# Altium schematic symbol library MCU_ST_STM32F4.SchLib: 300 symbols (part 3 of 11)
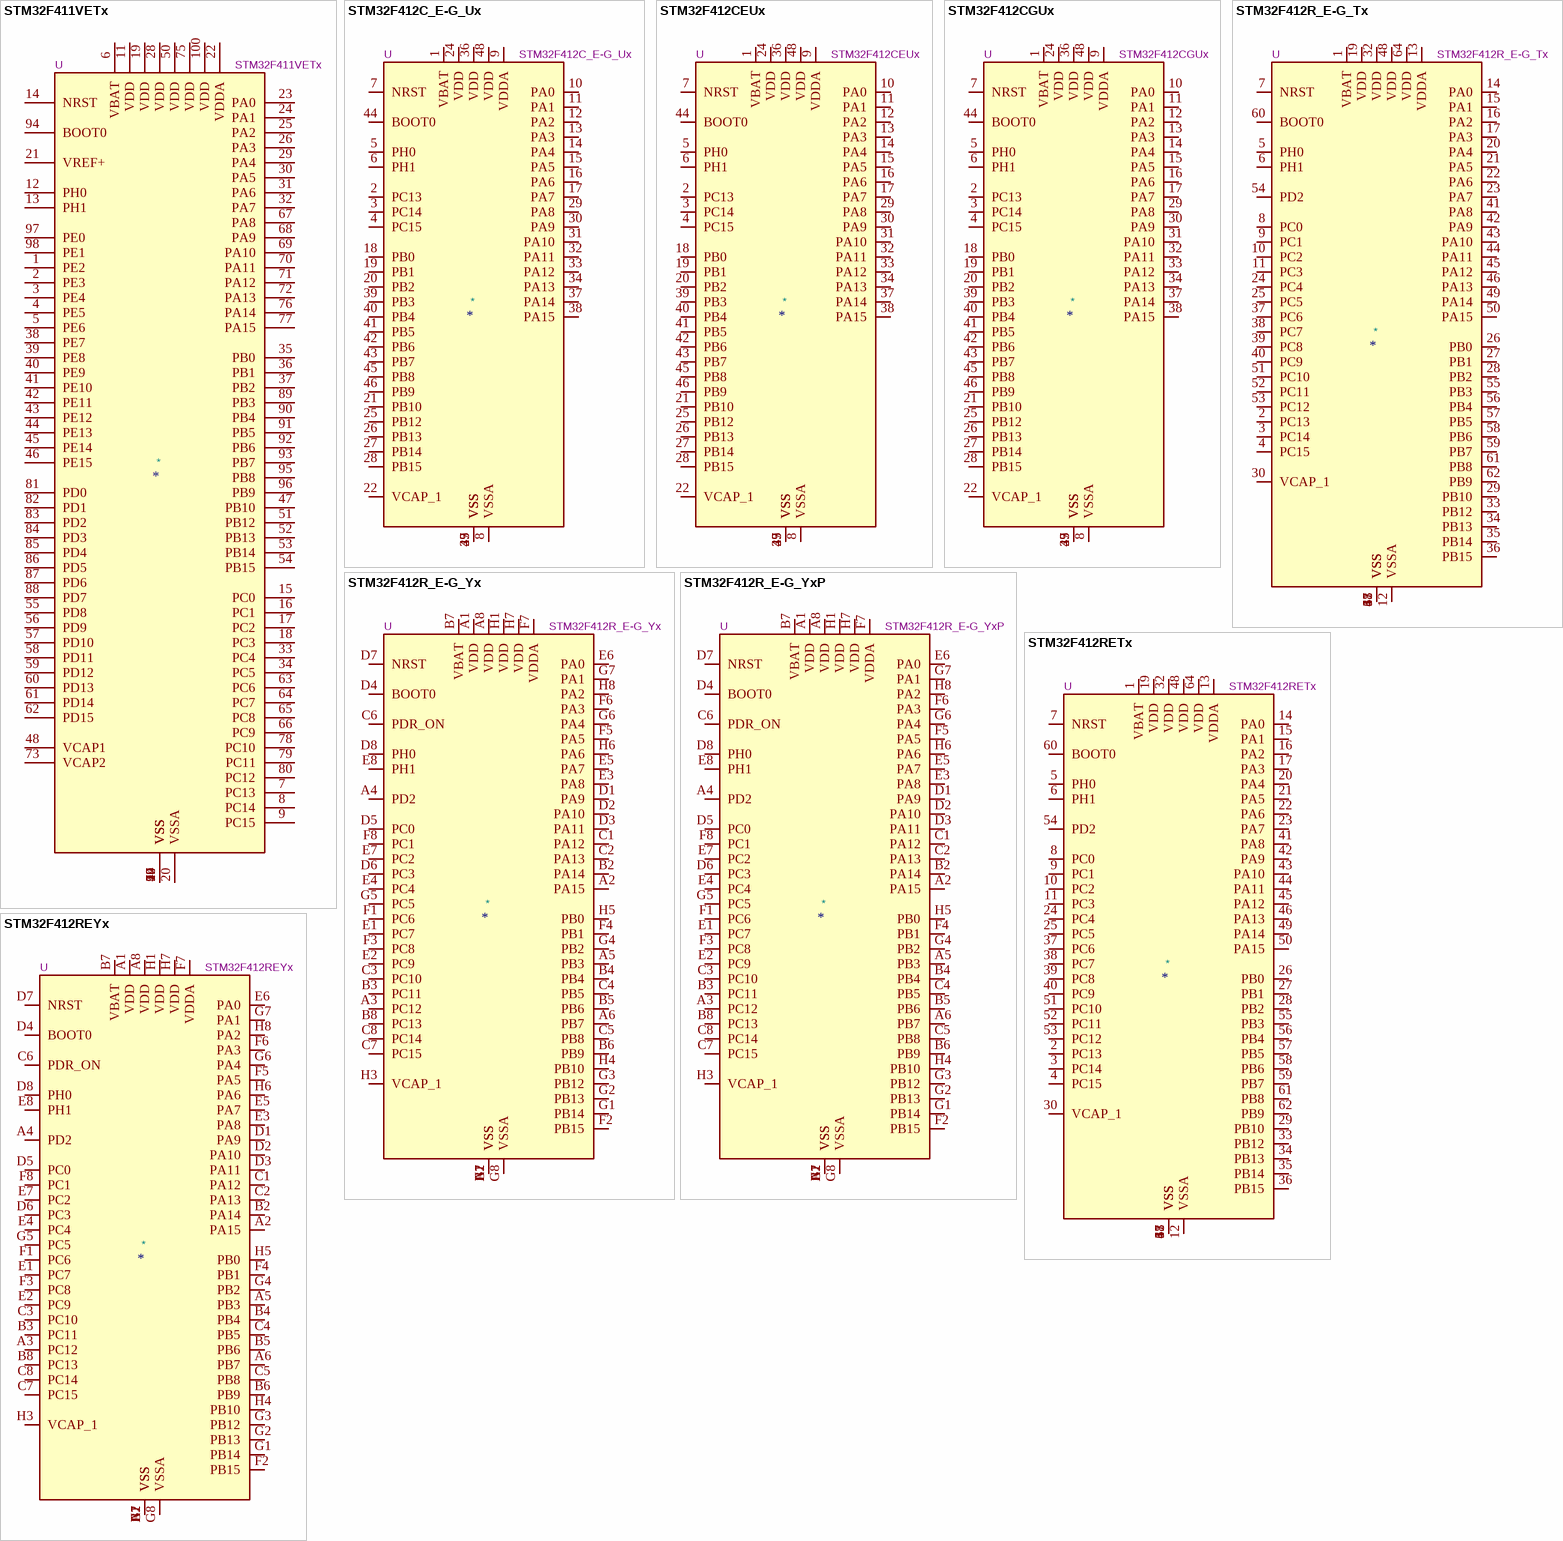
[diagram p84: symbols STM32F411VETx to STM32F412REYx]

## STM32F412R_E-G_Tx
designator *  value STM32F412R_E-G_Tx  Reference: U
STMicroelectronics Arm Cortex-M4 MCU, 512-1024KB flash, 256KB RAM, 100 MHz, 1.7-3.6V, 50 GPIO, LQFP64; ki_keywords: Arm Cortex-M4 STM32F4 STM32F412; ki_fp_filters: LQFP*10x10mm*P0.5mm*; Footprint: Package_QFP:LQFP-64_10x10mm_P0.5mm; Datasheet: https://www.st.com/resource/en/datasheet/stm32f412re.pdf; Description_: STMicroelectronics Arm Cortex-M4 MCU, 512-1024KB flash, 256KB RAM, 100 MHz, 1.7-3.6V, 50 GPIO, LQFP64
pins: 1 VBAT, 2 PC13, 3 PC14, 4 PC15, 5 PH0, 6 PH1, 7 NRST, 8 PC0, 9 PC1, 10 PC2, 11 PC3, 12 VSSA, 13 VDDA, 14 PA0, 15 PA1, 16 PA2, 17 PA3, 18 VSS, 19 VDD, 20 PA4, 21 PA5, 22 PA6, 23 PA7, 24 PC4, 25 PC5, 26 PB0, 27 PB1, 28 PB2, 29 PB10, 30 VCAP_1, 31 VSS, 32 VDD, 33 PB12, 34 PB13, 35 PB14, 36 PB15, 37 PC6, 38 PC7, 39 PC8, 40 PC9, 41 PA8, 42 PA9, 43 PA10, 44 PA11, 45 PA12, 46 PA13, 47 VSS, 48 VDD, 49 PA14, 50 PA15, 51 PC10, 52 PC11, 53 PC12, 54 PD2, 55 PB3, 56 PB4, 57 PB5, 58 PB6, 59 PB7, 60 BOOT0, 61 PB8, 62 PB9, 63 VSS, 64 VDD

## STM32F412R_E-G_Yx
designator *  value STM32F412R_E-G_Yx  Reference: U
STMicroelectronics Arm Cortex-M4 MCU, 512-1024KB flash, 256KB RAM, 100 MHz, 1.7-3.6V, 50 GPIO, WLCSP64; ki_keywords: Arm Cortex-M4 STM32F4 STM32F412; ki_fp_filters: ST*WLCSP*Die441*; Footprint: Package_CSP:ST_WLCSP-64_Die441; Datasheet: https://www.st.com/resource/en/datasheet/stm32f412re.pdf; Description_: STMicroelectronics Arm Cortex-M4 MCU, 512-1024KB flash, 256KB RAM, 100 MHz, 1.7-3.6V, 50 GPIO, WLCSP64
pins: A1 VDD, A2 PA15, A3 PC12, A4 PD2, A5 PB3, A6 PB7, A7 VSS, A8 VDD, B1 VSS, B2 PA14, B3 PC11, B4 PB4, B5 PB6, B6 PB9, B7 VBAT, B8 PC13, C1 PA12, C2 PA13, C3 PC10, C4 PB5, C5 PB8, C6 PDR_ON, C7 PC15, C8 PC14, D1 PA9, D2 PA10, D3 PA11, D4 BOOT0, D5 PC0, D6 PC3, D7 NRST, D8 PH0, E1 PC7, E2 PC9, E3 PA8, E4 PC4, E5 PA7, E6 PA0, E7 PC2, E8 PH1, F1 PC6, F2 PB15, F3 PC8, F4 PB1, F5 PA5, F6 PA3, F7 VDDA, F8 PC1, G1 PB14, G2 PB13, G3 PB12, G4 PB2, G5 PC5, G6 PA4, G7 PA1, G8 VSSA, H1 VDD, H2 VSS, H3 VCAP_1, H4 PB10, H5 PB0, H6 PA6, H7 VDD, H8 PA2

## STM32F412R_E-G_YxP
designator *  value STM32F412R_E-G_YxP  Reference: U
STMicroelectronics Arm Cortex-M4 MCU, 512-1024KB flash, 256KB RAM, 100 MHz, 1.7-3.6V, 50 GPIO, WLCSP64; ki_keywords: Arm Cortex-M4 STM32F4 STM32F412; ki_fp_filters: ST*WLCSP*Die441*; Footprint: Package_CSP:ST_WLCSP-64_Die441; Datasheet: https://www.st.com/resource/en/datasheet/stm32f412re.pdf; Description_: STMicroelectronics Arm Cortex-M4 MCU, 512-1024KB flash, 256KB RAM, 100 MHz, 1.7-3.6V, 50 GPIO, WLCSP64
pins: A1 VDD, A2 PA15, A3 PC12, A4 PD2, A5 PB3, A6 PB7, A7 VSS, A8 VDD, B1 VSS, B2 PA14, B3 PC11, B4 PB4, B5 PB6, B6 PB9, B7 VBAT, B8 PC13, C1 PA12, C2 PA13, C3 PC10, C4 PB5, C5 PB8, C6 PDR_ON, C7 PC15, C8 PC14, D1 PA9, D2 PA10, D3 PA11, D4 BOOT0, D5 PC0, D6 PC3, D7 NRST, D8 PH0, E1 PC7, E2 PC9, E3 PA8, E4 PC4, E5 PA7, E6 PA0, E7 PC2, E8 PH1, F1 PC6, F2 PB15, F3 PC8, F4 PB1, F5 PA5, F6 PA3, F7 VDDA, F8 PC1, G1 PB14, G2 PB13, G3 PB12, G4 PB2, G5 PC5, G6 PA4, G7 PA1, G8 VSSA, H1 VDD, H2 VSS, H3 VCAP_1, H4 PB10, H5 PB0, H6 PA6, H7 VDD, H8 PA2

## STM32F412RETx
designator *  value STM32F412RETx  Reference: U
STMicroelectronics Arm Cortex-M4 MCU, 512KB flash, 256KB RAM, 100 MHz, 1.7-3.6V, 50 GPIO, LQFP64; ki_keywords: Arm Cortex-M4 STM32F4 STM32F412; ki_fp_filters: LQFP*10x10mm*P0.5mm*; Footprint: Package_QFP:LQFP-64_10x10mm_P0.5mm; Datasheet: https://www.st.com/resource/en/datasheet/stm32f412re.pdf; Description_: STMicroelectronics Arm Cortex-M4 MCU, 512KB flash, 256KB RAM, 100 MHz, 1.7-3.6V, 50 GPIO, LQFP64
pins: 1 VBAT, 2 PC13, 3 PC14, 4 PC15, 5 PH0, 6 PH1, 7 NRST, 8 PC0, 9 PC1, 10 PC2, 11 PC3, 12 VSSA, 13 VDDA, 14 PA0, 15 PA1, 16 PA2, 17 PA3, 18 VSS, 19 VDD, 20 PA4, 21 PA5, 22 PA6, 23 PA7, 24 PC4, 25 PC5, 26 PB0, 27 PB1, 28 PB2, 29 PB10, 30 VCAP_1, 31 VSS, 32 VDD, 33 PB12, 34 PB13, 35 PB14, 36 PB15, 37 PC6, 38 PC7, 39 PC8, 40 PC9, 41 PA8, 42 PA9, 43 PA10, 44 PA11, 45 PA12, 46 PA13, 47 VSS, 48 VDD, 49 PA14, 50 PA15, 51 PC10, 52 PC11, 53 PC12, 54 PD2, 55 PB3, 56 PB4, 57 PB5, 58 PB6, 59 PB7, 60 BOOT0, 61 PB8, 62 PB9, 63 VSS, 64 VDD

## STM32F412REYx
designator *  value STM32F412REYx  Reference: U
STMicroelectronics Arm Cortex-M4 MCU, 512KB flash, 256KB RAM, 100 MHz, 1.7-3.6V, 50 GPIO, WLCSP64; ki_keywords: Arm Cortex-M4 STM32F4 STM32F412; ki_fp_filters: ST*WLCSP*Die441*; Footprint: Package_CSP:ST_WLCSP-64_Die441; Datasheet: https://www.st.com/resource/en/datasheet/stm32f412re.pdf; Description_: STMicroelectronics Arm Cortex-M4 MCU, 512KB flash, 256KB RAM, 100 MHz, 1.7-3.6V, 50 GPIO, WLCSP64
pins: A1 VDD, A2 PA15, A3 PC12, A4 PD2, A5 PB3, A6 PB7, A7 VSS, A8 VDD, B1 VSS, B2 PA14, B3 PC11, B4 PB4, B5 PB6, B6 PB9, B7 VBAT, B8 PC13, C1 PA12, C2 PA13, C3 PC10, C4 PB5, C5 PB8, C6 PDR_ON, C7 PC15, C8 PC14, D1 PA9, D2 PA10, D3 PA11, D4 BOOT0, D5 PC0, D6 PC3, D7 NRST, D8 PH0, E1 PC7, E2 PC9, E3 PA8, E4 PC4, E5 PA7, E6 PA0, E7 PC2, E8 PH1, F1 PC6, F2 PB15, F3 PC8, F4 PB1, F5 PA5, F6 PA3, F7 VDDA, F8 PC1, G1 PB14, G2 PB13, G3 PB12, G4 PB2, G5 PC5, G6 PA4, G7 PA1, G8 VSSA, H1 VDD, H2 VSS, H3 VCAP_1, H4 PB10, H5 PB0, H6 PA6, H7 VDD, H8 PA2

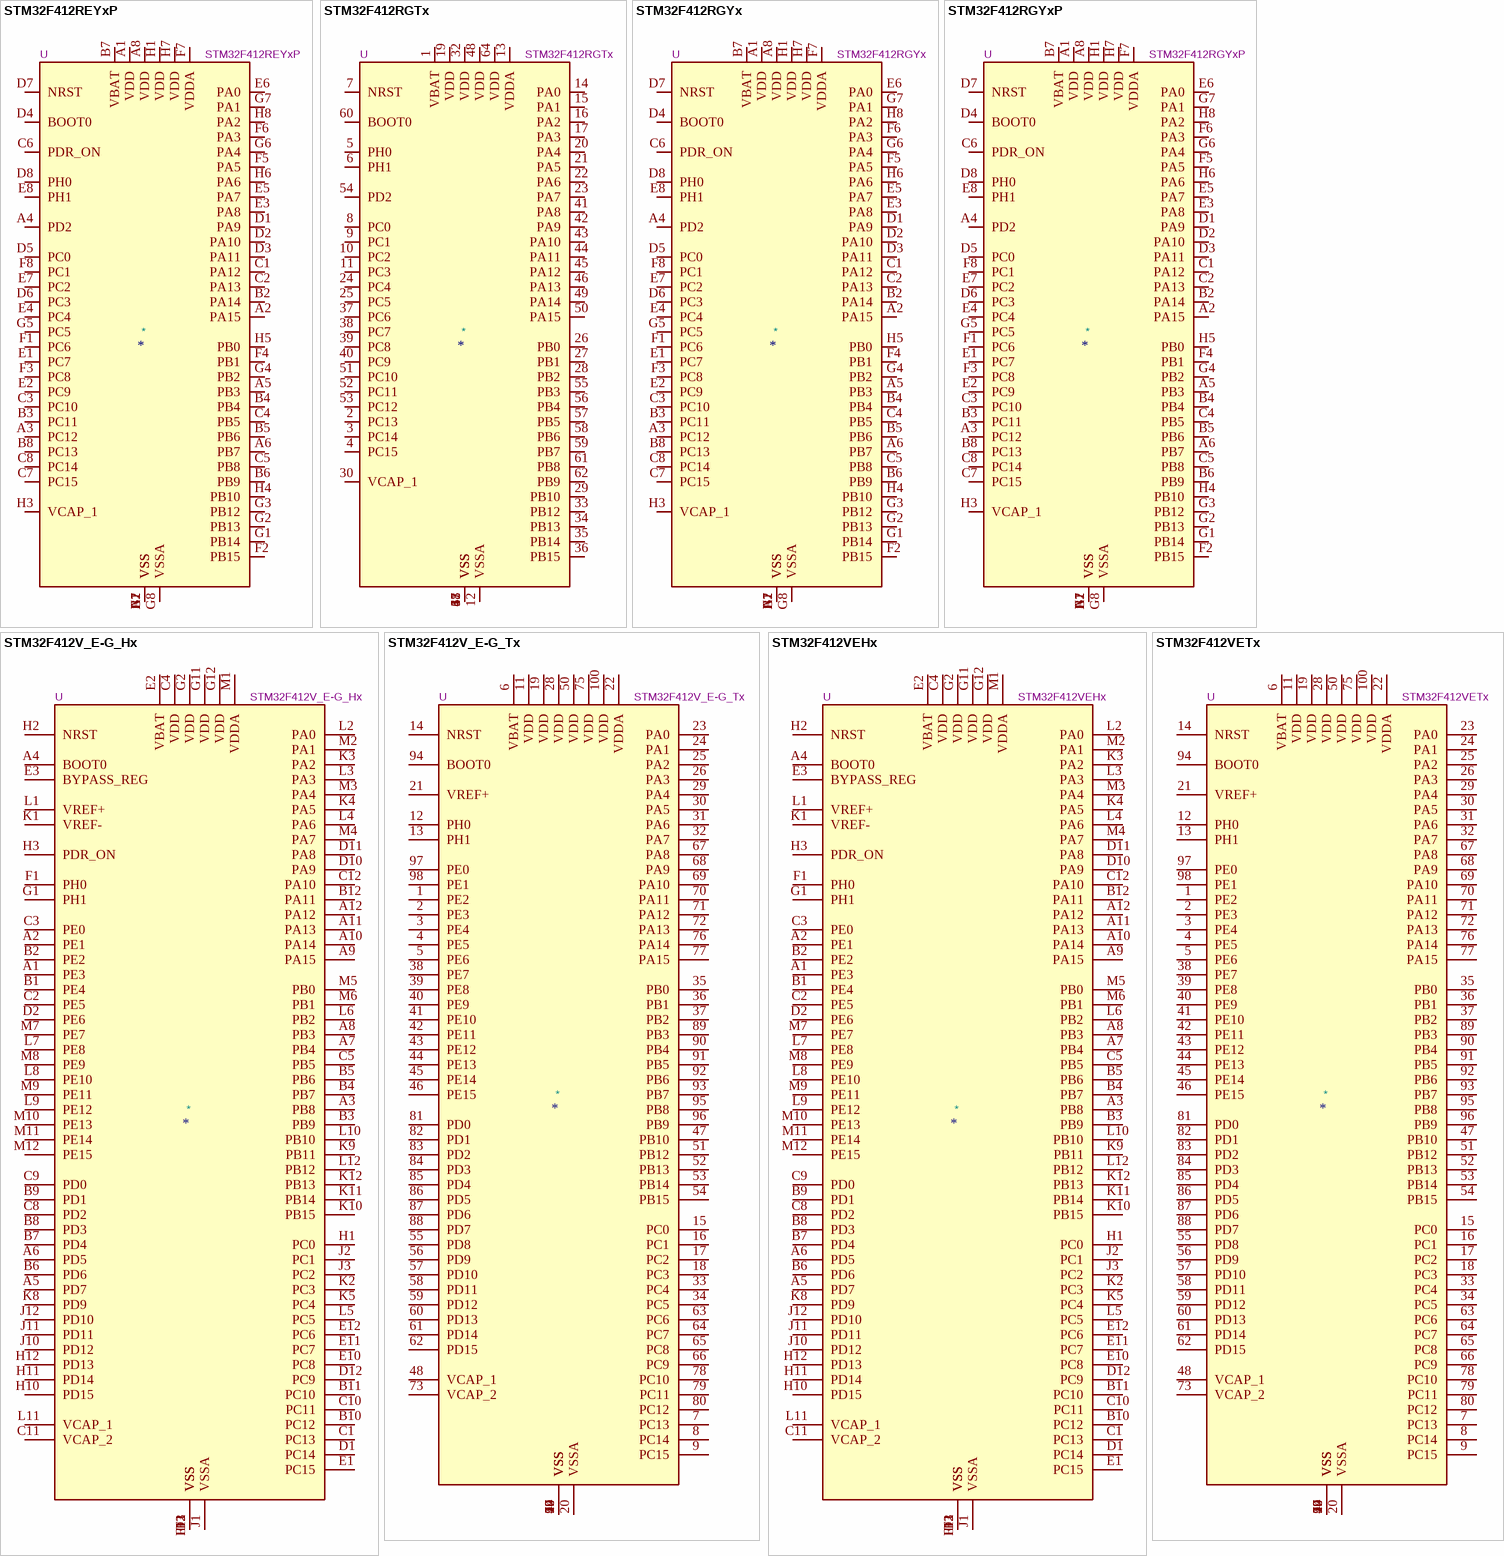
[diagram p15: symbols STM32F412REYxP to STM32F412VETx]

## STM32F412REYxP
designator *  value STM32F412REYxP  Reference: U
STMicroelectronics Arm Cortex-M4 MCU, 512KB flash, 256KB RAM, 100 MHz, 1.7-3.6V, 50 GPIO, WLCSP64; ki_keywords: Arm Cortex-M4 STM32F4 STM32F412; ki_fp_filters: ST*WLCSP*Die441*; Footprint: Package_CSP:ST_WLCSP-64_Die441; Datasheet: https://www.st.com/resource/en/datasheet/stm32f412re.pdf; Description_: STMicroelectronics Arm Cortex-M4 MCU, 512KB flash, 256KB RAM, 100 MHz, 1.7-3.6V, 50 GPIO, WLCSP64
pins: A1 VDD, A2 PA15, A3 PC12, A4 PD2, A5 PB3, A6 PB7, A7 VSS, A8 VDD, B1 VSS, B2 PA14, B3 PC11, B4 PB4, B5 PB6, B6 PB9, B7 VBAT, B8 PC13, C1 PA12, C2 PA13, C3 PC10, C4 PB5, C5 PB8, C6 PDR_ON, C7 PC15, C8 PC14, D1 PA9, D2 PA10, D3 PA11, D4 BOOT0, D5 PC0, D6 PC3, D7 NRST, D8 PH0, E1 PC7, E2 PC9, E3 PA8, E4 PC4, E5 PA7, E6 PA0, E7 PC2, E8 PH1, F1 PC6, F2 PB15, F3 PC8, F4 PB1, F5 PA5, F6 PA3, F7 VDDA, F8 PC1, G1 PB14, G2 PB13, G3 PB12, G4 PB2, G5 PC5, G6 PA4, G7 PA1, G8 VSSA, H1 VDD, H2 VSS, H3 VCAP_1, H4 PB10, H5 PB0, H6 PA6, H7 VDD, H8 PA2

## STM32F412RGTx
designator *  value STM32F412RGTx  Reference: U
STMicroelectronics Arm Cortex-M4 MCU, 1024KB flash, 256KB RAM, 100 MHz, 1.7-3.6V, 50 GPIO, LQFP64; ki_keywords: Arm Cortex-M4 STM32F4 STM32F412; ki_fp_filters: LQFP*10x10mm*P0.5mm*; Footprint: Package_QFP:LQFP-64_10x10mm_P0.5mm; Datasheet: https://www.st.com/resource/en/datasheet/stm32f412rg.pdf; Description_: STMicroelectronics Arm Cortex-M4 MCU, 1024KB flash, 256KB RAM, 100 MHz, 1.7-3.6V, 50 GPIO, LQFP64
pins: 1 VBAT, 2 PC13, 3 PC14, 4 PC15, 5 PH0, 6 PH1, 7 NRST, 8 PC0, 9 PC1, 10 PC2, 11 PC3, 12 VSSA, 13 VDDA, 14 PA0, 15 PA1, 16 PA2, 17 PA3, 18 VSS, 19 VDD, 20 PA4, 21 PA5, 22 PA6, 23 PA7, 24 PC4, 25 PC5, 26 PB0, 27 PB1, 28 PB2, 29 PB10, 30 VCAP_1, 31 VSS, 32 VDD, 33 PB12, 34 PB13, 35 PB14, 36 PB15, 37 PC6, 38 PC7, 39 PC8, 40 PC9, 41 PA8, 42 PA9, 43 PA10, 44 PA11, 45 PA12, 46 PA13, 47 VSS, 48 VDD, 49 PA14, 50 PA15, 51 PC10, 52 PC11, 53 PC12, 54 PD2, 55 PB3, 56 PB4, 57 PB5, 58 PB6, 59 PB7, 60 BOOT0, 61 PB8, 62 PB9, 63 VSS, 64 VDD

## STM32F412RGYx
designator *  value STM32F412RGYx  Reference: U
STMicroelectronics Arm Cortex-M4 MCU, 1024KB flash, 256KB RAM, 100 MHz, 1.7-3.6V, 50 GPIO, WLCSP64; ki_keywords: Arm Cortex-M4 STM32F4 STM32F412; ki_fp_filters: ST*WLCSP*Die441*; Footprint: Package_CSP:ST_WLCSP-64_Die441; Datasheet: https://www.st.com/resource/en/datasheet/stm32f412rg.pdf; Description_: STMicroelectronics Arm Cortex-M4 MCU, 1024KB flash, 256KB RAM, 100 MHz, 1.7-3.6V, 50 GPIO, WLCSP64
pins: A1 VDD, A2 PA15, A3 PC12, A4 PD2, A5 PB3, A6 PB7, A7 VSS, A8 VDD, B1 VSS, B2 PA14, B3 PC11, B4 PB4, B5 PB6, B6 PB9, B7 VBAT, B8 PC13, C1 PA12, C2 PA13, C3 PC10, C4 PB5, C5 PB8, C6 PDR_ON, C7 PC15, C8 PC14, D1 PA9, D2 PA10, D3 PA11, D4 BOOT0, D5 PC0, D6 PC3, D7 NRST, D8 PH0, E1 PC7, E2 PC9, E3 PA8, E4 PC4, E5 PA7, E6 PA0, E7 PC2, E8 PH1, F1 PC6, F2 PB15, F3 PC8, F4 PB1, F5 PA5, F6 PA3, F7 VDDA, F8 PC1, G1 PB14, G2 PB13, G3 PB12, G4 PB2, G5 PC5, G6 PA4, G7 PA1, G8 VSSA, H1 VDD, H2 VSS, H3 VCAP_1, H4 PB10, H5 PB0, H6 PA6, H7 VDD, H8 PA2

## STM32F412RGYxP
designator *  value STM32F412RGYxP  Reference: U
STMicroelectronics Arm Cortex-M4 MCU, 1024KB flash, 256KB RAM, 100 MHz, 1.7-3.6V, 50 GPIO, WLCSP64; ki_keywords: Arm Cortex-M4 STM32F4 STM32F412; ki_fp_filters: ST*WLCSP*Die441*; Footprint: Package_CSP:ST_WLCSP-64_Die441; Datasheet: https://www.st.com/resource/en/datasheet/stm32f412rg.pdf; Description_: STMicroelectronics Arm Cortex-M4 MCU, 1024KB flash, 256KB RAM, 100 MHz, 1.7-3.6V, 50 GPIO, WLCSP64
pins: A1 VDD, A2 PA15, A3 PC12, A4 PD2, A5 PB3, A6 PB7, A7 VSS, A8 VDD, B1 VSS, B2 PA14, B3 PC11, B4 PB4, B5 PB6, B6 PB9, B7 VBAT, B8 PC13, C1 PA12, C2 PA13, C3 PC10, C4 PB5, C5 PB8, C6 PDR_ON, C7 PC15, C8 PC14, D1 PA9, D2 PA10, D3 PA11, D4 BOOT0, D5 PC0, D6 PC3, D7 NRST, D8 PH0, E1 PC7, E2 PC9, E3 PA8, E4 PC4, E5 PA7, E6 PA0, E7 PC2, E8 PH1, F1 PC6, F2 PB15, F3 PC8, F4 PB1, F5 PA5, F6 PA3, F7 VDDA, F8 PC1, G1 PB14, G2 PB13, G3 PB12, G4 PB2, G5 PC5, G6 PA4, G7 PA1, G8 VSSA, H1 VDD, H2 VSS, H3 VCAP_1, H4 PB10, H5 PB0, H6 PA6, H7 VDD, H8 PA2

## STM32F412V_E-G_Hx
designator *  value STM32F412V_E-G_Hx  Reference: U
STMicroelectronics Arm Cortex-M4 MCU, 512-1024KB flash, 256KB RAM, 100 MHz, 1.7-3.6V, 81 GPIO, UFBGA100; ki_keywords: Arm Cortex-M4 STM32F4 STM32F412; ki_fp_filters: UFBGA*7x7mm*Layout12x12*P0.5mm*; Footprint: Package_BGA:UFBGA-100_7x7mm_Layout12x12_P0.5mm; Datasheet: https://www.st.com/resource/en/datasheet/stm32f412ve.pdf; Description_: STMicroelectronics Arm Cortex-M4 MCU, 512-1024KB flash, 256KB RAM, 100 MHz, 1.7-3.6V, 81 GPIO, UFBGA100
pins: A1 PE3, A2 PE1, A3 PB8, A4 BOOT0, A5 PD7, A6 PD5, A7 PB4, A8 PB3, A9 PA15, A10 PA14, A11 PA13, A12 PA12, B1 PE4, B2 PE2, B3 PB9, B4 PB7, B5 PB6, B6 PD6, B7 PD4, B8 PD3, B9 PD1, B10 PC12, B11 PC10, B12 PA11, C1 PC13, C2 PE5, C3 PE0, C4 VDD, C5 PB5, C8 PD2, C9 PD0, C10 PC11, C11 VCAP_2, C12 PA10, D1 PC14, D2 PE6, D3 VSS, D10 PA9, D11 PA8, D12 PC9, E1 PC15, E2 VBAT, E3 BYPASS_REG, E10 PC8, E11 PC7, E12 PC6, F1 PH0, F2 VSS, F11 VSS, F12 VSS, G1 PH1, G2 VDD, G11 VDD, G12 VDD, H1 PC0, H2 NRST, H3 PDR_ON, H10 PD15, H11 PD14, H12 PD13, J1 VSSA, J2 PC1, J3 PC2, J10 PD12, J11 PD11, J12 PD10, K1 VREF-, K2 PC3, K3 PA2, K4 PA5, K5 PC4, K8 PD9, K9 PB11, K10 PB15, K11 PB14, K12 PB13, L1 VREF+, L2 PA0, L3 PA3, L4 PA6, L5 PC5, L6 PB2, L7 PE8, L8 PE10, L9 PE12, L10 PB10, L11 VCAP_1, L12 PB12, M1 VDDA, M2 PA1, M3 PA4, M4 PA7, M5 PB0, M6 PB1, M7 PE7, M8 PE9, M9 PE11, M10 PE13, M11 PE14, M12 PE15

## STM32F412V_E-G_Tx
designator *  value STM32F412V_E-G_Tx  Reference: U
STMicroelectronics Arm Cortex-M4 MCU, 512-1024KB flash, 256KB RAM, 100 MHz, 1.7-3.6V, 81 GPIO, LQFP100; ki_keywords: Arm Cortex-M4 STM32F4 STM32F412; ki_fp_filters: LQFP*14x14mm*P0.5mm*; Footprint: Package_QFP:LQFP-100_14x14mm_P0.5mm; Datasheet: https://www.st.com/resource/en/datasheet/stm32f412ve.pdf; Description_: STMicroelectronics Arm Cortex-M4 MCU, 512-1024KB flash, 256KB RAM, 100 MHz, 1.7-3.6V, 81 GPIO, LQFP100
pins: 1 PE2, 2 PE3, 3 PE4, 4 PE5, 5 PE6, 6 VBAT, 7 PC13, 8 PC14, 9 PC15, 10 VSS, 11 VDD, 12 PH0, 13 PH1, 14 NRST, 15 PC0, 16 PC1, 17 PC2, 18 PC3, 19 VDD, 20 VSSA, 21 VREF+, 22 VDDA, 23 PA0, 24 PA1, 25 PA2, 26 PA3, 27 VSS, 28 VDD, 29 PA4, 30 PA5, 31 PA6, 32 PA7, 33 PC4, 34 PC5, 35 PB0, 36 PB1, 37 PB2, 38 PE7, 39 PE8, 40 PE9, 41 PE10, 42 PE11, 43 PE12, 44 PE13, 45 PE14, 46 PE15, 47 PB10, 48 VCAP_1, 49 VSS, 50 VDD, 51 PB12, 52 PB13, 53 PB14, 54 PB15, 55 PD8, 56 PD9, 57 PD10, 58 PD11, 59 PD12, 60 PD13, 61 PD14, 62 PD15, 63 PC6, 64 PC7, 65 PC8, 66 PC9, 67 PA8, 68 PA9, 69 PA10, 70 PA11, 71 PA12, 72 PA13, 73 VCAP_2, 74 VSS, 75 VDD, 76 PA14, 77 PA15, 78 PC10, 79 PC11, 80 PC12, 81 PD0, 82 PD1, 83 PD2, 84 PD3, 85 PD4, 86 PD5, 87 PD6, 88 PD7, 89 PB3, 90 PB4, 91 PB5, 92 PB6, 93 PB7, 94 BOOT0, 95 PB8, 96 PB9, 97 PE0, 98 PE1, 99 VSS, 100 VDD

## STM32F412VEHx
designator *  value STM32F412VEHx  Reference: U
STMicroelectronics Arm Cortex-M4 MCU, 512KB flash, 256KB RAM, 100 MHz, 1.7-3.6V, 81 GPIO, UFBGA100; ki_keywords: Arm Cortex-M4 STM32F4 STM32F412; ki_fp_filters: UFBGA*7x7mm*Layout12x12*P0.5mm*; Footprint: Package_BGA:UFBGA-100_7x7mm_Layout12x12_P0.5mm; Datasheet: https://www.st.com/resource/en/datasheet/stm32f412ve.pdf; Description_: STMicroelectronics Arm Cortex-M4 MCU, 512KB flash, 256KB RAM, 100 MHz, 1.7-3.6V, 81 GPIO, UFBGA100
pins: A1 PE3, A2 PE1, A3 PB8, A4 BOOT0, A5 PD7, A6 PD5, A7 PB4, A8 PB3, A9 PA15, A10 PA14, A11 PA13, A12 PA12, B1 PE4, B2 PE2, B3 PB9, B4 PB7, B5 PB6, B6 PD6, B7 PD4, B8 PD3, B9 PD1, B10 PC12, B11 PC10, B12 PA11, C1 PC13, C2 PE5, C3 PE0, C4 VDD, C5 PB5, C8 PD2, C9 PD0, C10 PC11, C11 VCAP_2, C12 PA10, D1 PC14, D2 PE6, D3 VSS, D10 PA9, D11 PA8, D12 PC9, E1 PC15, E2 VBAT, E3 BYPASS_REG, E10 PC8, E11 PC7, E12 PC6, F1 PH0, F2 VSS, F11 VSS, F12 VSS, G1 PH1, G2 VDD, G11 VDD, G12 VDD, H1 PC0, H2 NRST, H3 PDR_ON, H10 PD15, H11 PD14, H12 PD13, J1 VSSA, J2 PC1, J3 PC2, J10 PD12, J11 PD11, J12 PD10, K1 VREF-, K2 PC3, K3 PA2, K4 PA5, K5 PC4, K8 PD9, K9 PB11, K10 PB15, K11 PB14, K12 PB13, L1 VREF+, L2 PA0, L3 PA3, L4 PA6, L5 PC5, L6 PB2, L7 PE8, L8 PE10, L9 PE12, L10 PB10, L11 VCAP_1, L12 PB12, M1 VDDA, M2 PA1, M3 PA4, M4 PA7, M5 PB0, M6 PB1, M7 PE7, M8 PE9, M9 PE11, M10 PE13, M11 PE14, M12 PE15

## STM32F412VETx
designator *  value STM32F412VETx  Reference: U
STMicroelectronics Arm Cortex-M4 MCU, 512KB flash, 256KB RAM, 100 MHz, 1.7-3.6V, 81 GPIO, LQFP100; ki_keywords: Arm Cortex-M4 STM32F4 STM32F412; ki_fp_filters: LQFP*14x14mm*P0.5mm*; Footprint: Package_QFP:LQFP-100_14x14mm_P0.5mm; Datasheet: https://www.st.com/resource/en/datasheet/stm32f412ve.pdf; Description_: STMicroelectronics Arm Cortex-M4 MCU, 512KB flash, 256KB RAM, 100 MHz, 1.7-3.6V, 81 GPIO, LQFP100
pins: 1 PE2, 2 PE3, 3 PE4, 4 PE5, 5 PE6, 6 VBAT, 7 PC13, 8 PC14, 9 PC15, 10 VSS, 11 VDD, 12 PH0, 13 PH1, 14 NRST, 15 PC0, 16 PC1, 17 PC2, 18 PC3, 19 VDD, 20 VSSA, 21 VREF+, 22 VDDA, 23 PA0, 24 PA1, 25 PA2, 26 PA3, 27 VSS, 28 VDD, 29 PA4, 30 PA5, 31 PA6, 32 PA7, 33 PC4, 34 PC5, 35 PB0, 36 PB1, 37 PB2, 38 PE7, 39 PE8, 40 PE9, 41 PE10, 42 PE11, 43 PE12, 44 PE13, 45 PE14, 46 PE15, 47 PB10, 48 VCAP_1, 49 VSS, 50 VDD, 51 PB12, 52 PB13, 53 PB14, 54 PB15, 55 PD8, 56 PD9, 57 PD10, 58 PD11, 59 PD12, 60 PD13, 61 PD14, 62 PD15, 63 PC6, 64 PC7, 65 PC8, 66 PC9, 67 PA8, 68 PA9, 69 PA10, 70 PA11, 71 PA12, 72 PA13, 73 VCAP_2, 74 VSS, 75 VDD, 76 PA14, 77 PA15, 78 PC10, 79 PC11, 80 PC12, 81 PD0, 82 PD1, 83 PD2, 84 PD3, 85 PD4, 86 PD5, 87 PD6, 88 PD7, 89 PB3, 90 PB4, 91 PB5, 92 PB6, 93 PB7, 94 BOOT0, 95 PB8, 96 PB9, 97 PE0, 98 PE1, 99 VSS, 100 VDD

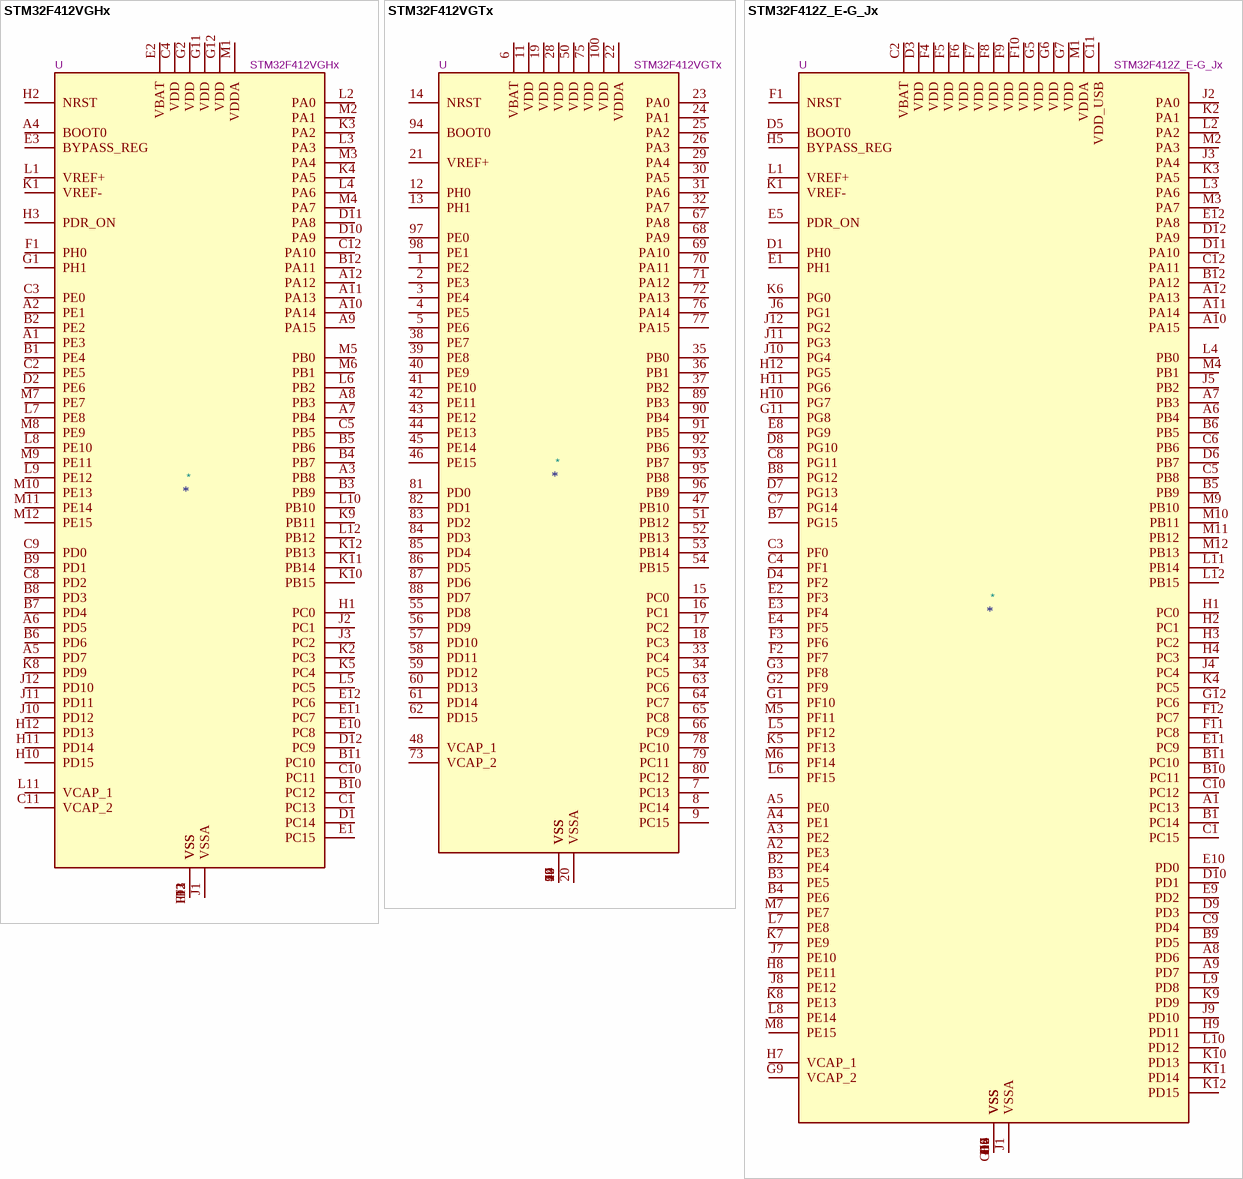
[diagram p16: symbols STM32F412VGHx to STM32F412Z_E-G_Jx]

## STM32F412VGHx
designator *  value STM32F412VGHx  Reference: U
STMicroelectronics Arm Cortex-M4 MCU, 1024KB flash, 256KB RAM, 100 MHz, 1.7-3.6V, 81 GPIO, UFBGA100; ki_keywords: Arm Cortex-M4 STM32F4 STM32F412; ki_fp_filters: UFBGA*7x7mm*Layout12x12*P0.5mm*; Footprint: Package_BGA:UFBGA-100_7x7mm_Layout12x12_P0.5mm; Datasheet: https://www.st.com/resource/en/datasheet/stm32f412vg.pdf; Description_: STMicroelectronics Arm Cortex-M4 MCU, 1024KB flash, 256KB RAM, 100 MHz, 1.7-3.6V, 81 GPIO, UFBGA100
pins: A1 PE3, A2 PE1, A3 PB8, A4 BOOT0, A5 PD7, A6 PD5, A7 PB4, A8 PB3, A9 PA15, A10 PA14, A11 PA13, A12 PA12, B1 PE4, B2 PE2, B3 PB9, B4 PB7, B5 PB6, B6 PD6, B7 PD4, B8 PD3, B9 PD1, B10 PC12, B11 PC10, B12 PA11, C1 PC13, C2 PE5, C3 PE0, C4 VDD, C5 PB5, C8 PD2, C9 PD0, C10 PC11, C11 VCAP_2, C12 PA10, D1 PC14, D2 PE6, D3 VSS, D10 PA9, D11 PA8, D12 PC9, E1 PC15, E2 VBAT, E3 BYPASS_REG, E10 PC8, E11 PC7, E12 PC6, F1 PH0, F2 VSS, F11 VSS, F12 VSS, G1 PH1, G2 VDD, G11 VDD, G12 VDD, H1 PC0, H2 NRST, H3 PDR_ON, H10 PD15, H11 PD14, H12 PD13, J1 VSSA, J2 PC1, J3 PC2, J10 PD12, J11 PD11, J12 PD10, K1 VREF-, K2 PC3, K3 PA2, K4 PA5, K5 PC4, K8 PD9, K9 PB11, K10 PB15, K11 PB14, K12 PB13, L1 VREF+, L2 PA0, L3 PA3, L4 PA6, L5 PC5, L6 PB2, L7 PE8, L8 PE10, L9 PE12, L10 PB10, L11 VCAP_1, L12 PB12, M1 VDDA, M2 PA1, M3 PA4, M4 PA7, M5 PB0, M6 PB1, M7 PE7, M8 PE9, M9 PE11, M10 PE13, M11 PE14, M12 PE15

## STM32F412VGTx
designator *  value STM32F412VGTx  Reference: U
STMicroelectronics Arm Cortex-M4 MCU, 1024KB flash, 256KB RAM, 100 MHz, 1.7-3.6V, 81 GPIO, LQFP100; ki_keywords: Arm Cortex-M4 STM32F4 STM32F412; ki_fp_filters: LQFP*14x14mm*P0.5mm*; Footprint: Package_QFP:LQFP-100_14x14mm_P0.5mm; Datasheet: https://www.st.com/resource/en/datasheet/stm32f412vg.pdf; Description_: STMicroelectronics Arm Cortex-M4 MCU, 1024KB flash, 256KB RAM, 100 MHz, 1.7-3.6V, 81 GPIO, LQFP100
pins: 1 PE2, 2 PE3, 3 PE4, 4 PE5, 5 PE6, 6 VBAT, 7 PC13, 8 PC14, 9 PC15, 10 VSS, 11 VDD, 12 PH0, 13 PH1, 14 NRST, 15 PC0, 16 PC1, 17 PC2, 18 PC3, 19 VDD, 20 VSSA, 21 VREF+, 22 VDDA, 23 PA0, 24 PA1, 25 PA2, 26 PA3, 27 VSS, 28 VDD, 29 PA4, 30 PA5, 31 PA6, 32 PA7, 33 PC4, 34 PC5, 35 PB0, 36 PB1, 37 PB2, 38 PE7, 39 PE8, 40 PE9, 41 PE10, 42 PE11, 43 PE12, 44 PE13, 45 PE14, 46 PE15, 47 PB10, 48 VCAP_1, 49 VSS, 50 VDD, 51 PB12, 52 PB13, 53 PB14, 54 PB15, 55 PD8, 56 PD9, 57 PD10, 58 PD11, 59 PD12, 60 PD13, 61 PD14, 62 PD15, 63 PC6, 64 PC7, 65 PC8, 66 PC9, 67 PA8, 68 PA9, 69 PA10, 70 PA11, 71 PA12, 72 PA13, 73 VCAP_2, 74 VSS, 75 VDD, 76 PA14, 77 PA15, 78 PC10, 79 PC11, 80 PC12, 81 PD0, 82 PD1, 83 PD2, 84 PD3, 85 PD4, 86 PD5, 87 PD6, 88 PD7, 89 PB3, 90 PB4, 91 PB5, 92 PB6, 93 PB7, 94 BOOT0, 95 PB8, 96 PB9, 97 PE0, 98 PE1, 99 VSS, 100 VDD

## STM32F412Z_E-G_Jx
designator *  value STM32F412Z_E-G_Jx  Reference: U
STMicroelectronics Arm Cortex-M4 MCU, 512-1024KB flash, 256KB RAM, 100 MHz, 1.7-3.6V, 114 GPIO, UFBGA144; ki_keywords: Arm Cortex-M4 STM32F4 STM32F412; ki_fp_filters: UFBGA*10x10mm*Layout12x12*P0.8mm*; Footprint: Package_BGA:UFBGA-144_10x10mm_Layout12x12_P0.8mm; Datasheet: https://www.st.com/resource/en/datasheet/stm32f412ze.pdf; Description_: STMicroelectronics Arm Cortex-M4 MCU, 512-1024KB flash, 256KB RAM, 100 MHz, 1.7-3.6V, 114 GPIO, UFBGA144
pins: A1 PC13, A2 PE3, A3 PE2, A4 PE1, A5 PE0, A6 PB4, A7 PB3, A8 PD6, A9 PD7, A10 PA15, A11 PA14, A12 PA13, B1 PC14, B2 PE4, B3 PE5, B4 PE6, B5 PB9, B6 PB5, B7 PG15, B8 PG12, B9 PD5, B10 PC11, B11 PC10, B12 PA12, C1 PC15, C2 VBAT, C3 PF0, C4 PF1, C5 PB8, C6 PB6, C7 PG14, C8 PG11, C9 PD4, C10 PC12, C11 VDD_USB, C12 PA11, D1 PH0, D2 VSS, D3 VDD, D4 PF2, D5 BOOT0, D6 PB7, D7 PG13, D8 PG10, D9 PD3, D10 PD1, D11 PA10, D12 PA9, E1 PH1, E2 PF3, E3 PF4, E4 PF5, E5 PDR_ON, E6 VSS, E7 VSS, E8 PG9, E9 PD2, E10 PD0, E11 PC9, E12 PA8, F1 NRST, F2 PF7, F3 PF6, F4 VDD, F5 VDD, F6 VDD, F7 VDD, F8 VDD, F9 VDD, F10 VDD, F11 PC8, F12 PC7, G1 PF10, G2 PF9, G3 PF8, G4 VSS, G5 VDD, G6 VDD, G7 VDD, G8 VSS, G9 VCAP_2, G10 VSS, G11 PG8, G12 PC6, H1 PC0, H2 PC1, H3 PC2, H4 PC3, H5 BYPASS_REG, H6 VSS, H7 VCAP_1, H8 PE11, H9 PD11, H10 PG7, H11 PG6, H12 PG5, J1 VSSA, J2 PA0, J3 PA4, J4 PC4, J5 PB2, J6 PG1, J7 PE10, J8 PE12, J9 PD10, J10 PG4, J11 PG3, J12 PG2, K1 VREF-, K2 PA1, K3 PA5, K4 PC5, K5 PF13, K6 PG0, K7 PE9, K8 PE13, K9 PD9, K10 PD13, K11 PD14, K12 PD15, L1 VREF+, L2 PA2, L3 PA6, L4 PB0, L5 PF12, L6 PF15, L7 PE8, L8 PE14, L9 PD8, L10 PD12, L11 PB14, L12 PB15, M1 VDDA, M2 PA3, M3 PA7, M4 PB1, M5 PF11, M6 PF14, M7 PE7, M8 PE15, M9 PB10, M10 PB11, M11 PB12, M12 PB13

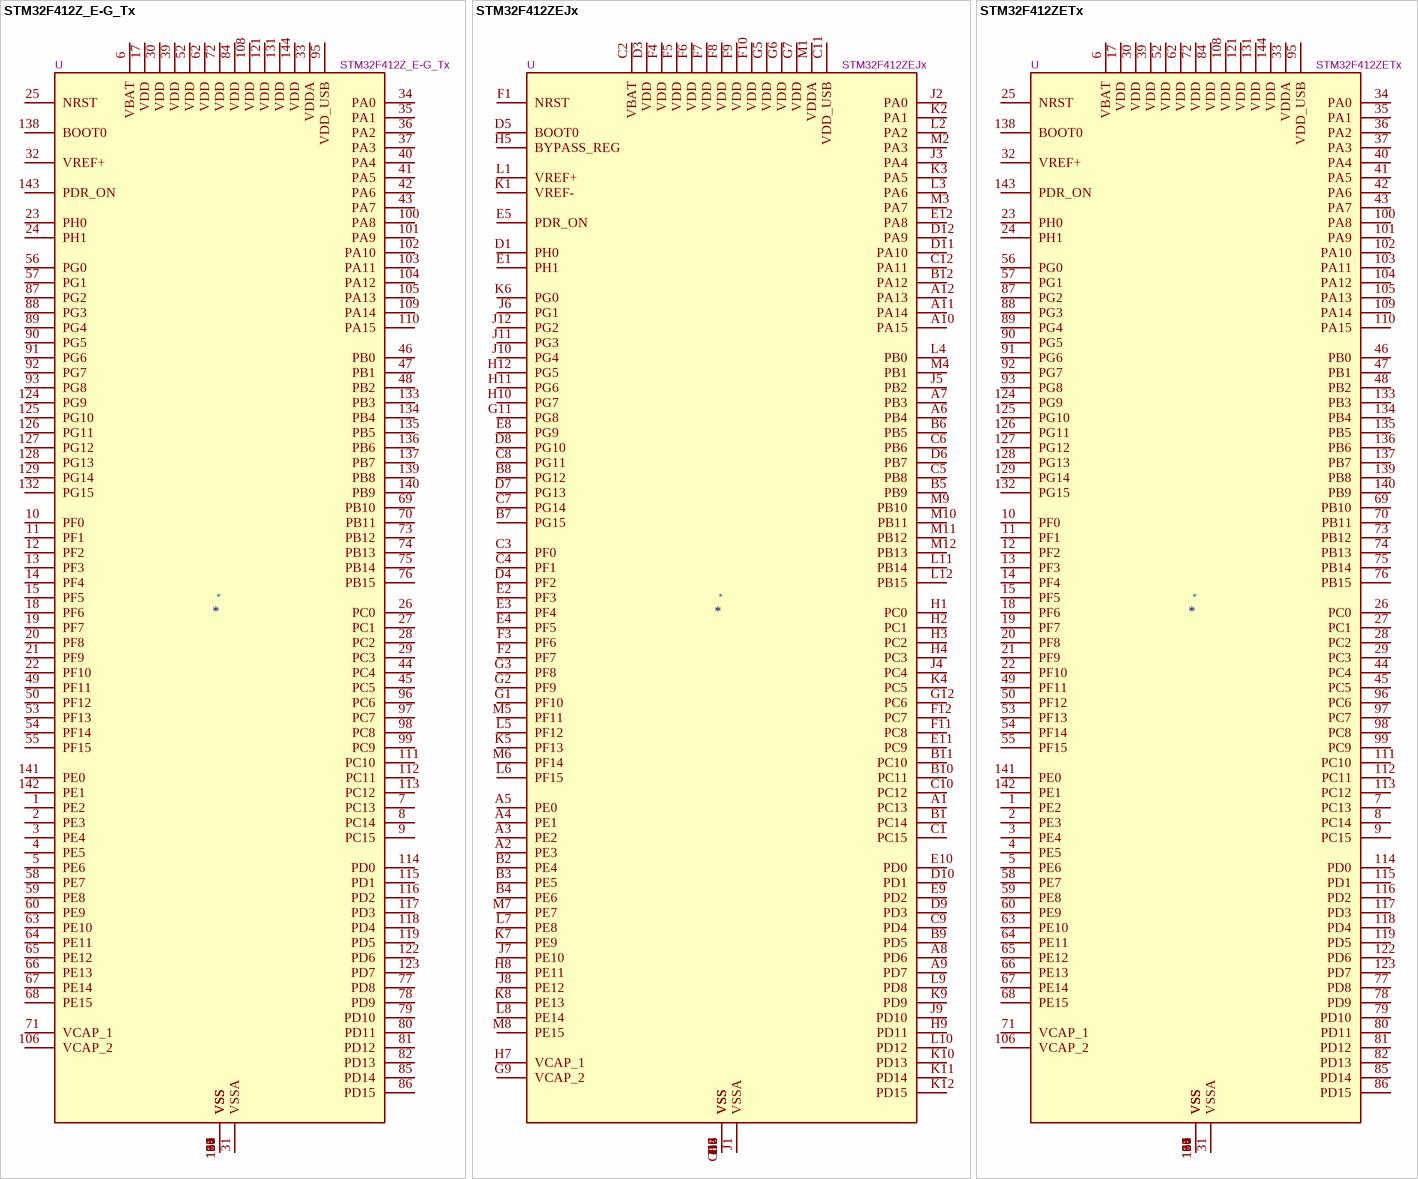
[diagram p17: symbols STM32F412Z_E-G_Tx to STM32F412ZETx]

## STM32F412Z_E-G_Tx
designator *  value STM32F412Z_E-G_Tx  Reference: U
STMicroelectronics Arm Cortex-M4 MCU, 512-1024KB flash, 256KB RAM, 100 MHz, 1.7-3.6V, 114 GPIO, LQFP144; ki_keywords: Arm Cortex-M4 STM32F4 STM32F412; ki_fp_filters: LQFP*20x20mm*P0.5mm*; Footprint: Package_QFP:LQFP-144_20x20mm_P0.5mm; Datasheet: https://www.st.com/resource/en/datasheet/stm32f412ze.pdf; Description_: STMicroelectronics Arm Cortex-M4 MCU, 512-1024KB flash, 256KB RAM, 100 MHz, 1.7-3.6V, 114 GPIO, LQFP144
pins: 1 PE2, 2 PE3, 3 PE4, 4 PE5, 5 PE6, 6 VBAT, 7 PC13, 8 PC14, 9 PC15, 10 PF0, 11 PF1, 12 PF2, 13 PF3, 14 PF4, 15 PF5, 16 VSS, 17 VDD, 18 PF6, 19 PF7, 20 PF8, 21 PF9, 22 PF10, 23 PH0, 24 PH1, 25 NRST, 26 PC0, 27 PC1, 28 PC2, 29 PC3, 30 VDD, 31 VSSA, 32 VREF+, 33 VDDA, 34 PA0, 35 PA1, 36 PA2, 37 PA3, 38 VSS, 39 VDD, 40 PA4, 41 PA5, 42 PA6, 43 PA7, 44 PC4, 45 PC5, 46 PB0, 47 PB1, 48 PB2, 49 PF11, 50 PF12, 51 VSS, 52 VDD, 53 PF13, 54 PF14, 55 PF15, 56 PG0, 57 PG1, 58 PE7, 59 PE8, 60 PE9, 61 VSS, 62 VDD, 63 PE10, 64 PE11, 65 PE12, 66 PE13, 67 PE14, 68 PE15, 69 PB10, 70 PB11, 71 VCAP_1, 72 VDD, 73 PB12, 74 PB13, 75 PB14, 76 PB15, 77 PD8, 78 PD9, 79 PD10, 80 PD11, 81 PD12, 82 PD13, 83 VSS, 84 VDD, 85 PD14, 86 PD15, 87 PG2, 88 PG3, 89 PG4, 90 PG5, 91 PG6, 92 PG7, 93 PG8, 94 VSS, 95 VDD_USB, 96 PC6, 97 PC7, 98 PC8, 99 PC9, 100 PA8, 101 PA9, 102 PA10, 103 PA11, 104 PA12, 105 PA13, 106 VCAP_2, 107 VSS, 108 VDD, 109 PA14, 110 PA15, 111 PC10, 112 PC11, 113 PC12, 114 PD0, 115 PD1, 116 PD2, 117 PD3, 118 PD4, 119 PD5, 120 VSS, 121 VDD, 122 PD6, 123 PD7, 124 PG9, 125 PG10, 126 PG11, 127 PG12, 128 PG13, 129 PG14, 130 VSS, 131 VDD, 132 PG15, 133 PB3, 134 PB4, 135 PB5, 136 PB6, 137 PB7, 138 BOOT0, 139 PB8, 140 PB9, 141 PE0, 142 PE1, 143 PDR_ON, 144 VDD

## STM32F412ZEJx
designator *  value STM32F412ZEJx  Reference: U
STMicroelectronics Arm Cortex-M4 MCU, 512KB flash, 256KB RAM, 100 MHz, 1.7-3.6V, 114 GPIO, UFBGA144; ki_keywords: Arm Cortex-M4 STM32F4 STM32F412; ki_fp_filters: UFBGA*10x10mm*Layout12x12*P0.8mm*; Footprint: Package_BGA:UFBGA-144_10x10mm_Layout12x12_P0.8mm; Datasheet: https://www.st.com/resource/en/datasheet/stm32f412ze.pdf; Description_: STMicroelectronics Arm Cortex-M4 MCU, 512KB flash, 256KB RAM, 100 MHz, 1.7-3.6V, 114 GPIO, UFBGA144
pins: A1 PC13, A2 PE3, A3 PE2, A4 PE1, A5 PE0, A6 PB4, A7 PB3, A8 PD6, A9 PD7, A10 PA15, A11 PA14, A12 PA13, B1 PC14, B2 PE4, B3 PE5, B4 PE6, B5 PB9, B6 PB5, B7 PG15, B8 PG12, B9 PD5, B10 PC11, B11 PC10, B12 PA12, C1 PC15, C2 VBAT, C3 PF0, C4 PF1, C5 PB8, C6 PB6, C7 PG14, C8 PG11, C9 PD4, C10 PC12, C11 VDD_USB, C12 PA11, D1 PH0, D2 VSS, D3 VDD, D4 PF2, D5 BOOT0, D6 PB7, D7 PG13, D8 PG10, D9 PD3, D10 PD1, D11 PA10, D12 PA9, E1 PH1, E2 PF3, E3 PF4, E4 PF5, E5 PDR_ON, E6 VSS, E7 VSS, E8 PG9, E9 PD2, E10 PD0, E11 PC9, E12 PA8, F1 NRST, F2 PF7, F3 PF6, F4 VDD, F5 VDD, F6 VDD, F7 VDD, F8 VDD, F9 VDD, F10 VDD, F11 PC8, F12 PC7, G1 PF10, G2 PF9, G3 PF8, G4 VSS, G5 VDD, G6 VDD, G7 VDD, G8 VSS, G9 VCAP_2, G10 VSS, G11 PG8, G12 PC6, H1 PC0, H2 PC1, H3 PC2, H4 PC3, H5 BYPASS_REG, H6 VSS, H7 VCAP_1, H8 PE11, H9 PD11, H10 PG7, H11 PG6, H12 PG5, J1 VSSA, J2 PA0, J3 PA4, J4 PC4, J5 PB2, J6 PG1, J7 PE10, J8 PE12, J9 PD10, J10 PG4, J11 PG3, J12 PG2, K1 VREF-, K2 PA1, K3 PA5, K4 PC5, K5 PF13, K6 PG0, K7 PE9, K8 PE13, K9 PD9, K10 PD13, K11 PD14, K12 PD15, L1 VREF+, L2 PA2, L3 PA6, L4 PB0, L5 PF12, L6 PF15, L7 PE8, L8 PE14, L9 PD8, L10 PD12, L11 PB14, L12 PB15, M1 VDDA, M2 PA3, M3 PA7, M4 PB1, M5 PF11, M6 PF14, M7 PE7, M8 PE15, M9 PB10, M10 PB11, M11 PB12, M12 PB13

## STM32F412ZETx
designator *  value STM32F412ZETx  Reference: U
STMicroelectronics Arm Cortex-M4 MCU, 512KB flash, 256KB RAM, 100 MHz, 1.7-3.6V, 114 GPIO, LQFP144; ki_keywords: Arm Cortex-M4 STM32F4 STM32F412; ki_fp_filters: LQFP*20x20mm*P0.5mm*; Footprint: Package_QFP:LQFP-144_20x20mm_P0.5mm; Datasheet: https://www.st.com/resource/en/datasheet/stm32f412ze.pdf; Description_: STMicroelectronics Arm Cortex-M4 MCU, 512KB flash, 256KB RAM, 100 MHz, 1.7-3.6V, 114 GPIO, LQFP144
pins: 1 PE2, 2 PE3, 3 PE4, 4 PE5, 5 PE6, 6 VBAT, 7 PC13, 8 PC14, 9 PC15, 10 PF0, 11 PF1, 12 PF2, 13 PF3, 14 PF4, 15 PF5, 16 VSS, 17 VDD, 18 PF6, 19 PF7, 20 PF8, 21 PF9, 22 PF10, 23 PH0, 24 PH1, 25 NRST, 26 PC0, 27 PC1, 28 PC2, 29 PC3, 30 VDD, 31 VSSA, 32 VREF+, 33 VDDA, 34 PA0, 35 PA1, 36 PA2, 37 PA3, 38 VSS, 39 VDD, 40 PA4, 41 PA5, 42 PA6, 43 PA7, 44 PC4, 45 PC5, 46 PB0, 47 PB1, 48 PB2, 49 PF11, 50 PF12, 51 VSS, 52 VDD, 53 PF13, 54 PF14, 55 PF15, 56 PG0, 57 PG1, 58 PE7, 59 PE8, 60 PE9, 61 VSS, 62 VDD, 63 PE10, 64 PE11, 65 PE12, 66 PE13, 67 PE14, 68 PE15, 69 PB10, 70 PB11, 71 VCAP_1, 72 VDD, 73 PB12, 74 PB13, 75 PB14, 76 PB15, 77 PD8, 78 PD9, 79 PD10, 80 PD11, 81 PD12, 82 PD13, 83 VSS, 84 VDD, 85 PD14, 86 PD15, 87 PG2, 88 PG3, 89 PG4, 90 PG5, 91 PG6, 92 PG7, 93 PG8, 94 VSS, 95 VDD_USB, 96 PC6, 97 PC7, 98 PC8, 99 PC9, 100 PA8, 101 PA9, 102 PA10, 103 PA11, 104 PA12, 105 PA13, 106 VCAP_2, 107 VSS, 108 VDD, 109 PA14, 110 PA15, 111 PC10, 112 PC11, 113 PC12, 114 PD0, 115 PD1, 116 PD2, 117 PD3, 118 PD4, 119 PD5, 120 VSS, 121 VDD, 122 PD6, 123 PD7, 124 PG9, 125 PG10, 126 PG11, 127 PG12, 128 PG13, 129 PG14, 130 VSS, 131 VDD, 132 PG15, 133 PB3, 134 PB4, 135 PB5, 136 PB6, 137 PB7, 138 BOOT0, 139 PB8, 140 PB9, 141 PE0, 142 PE1, 143 PDR_ON, 144 VDD

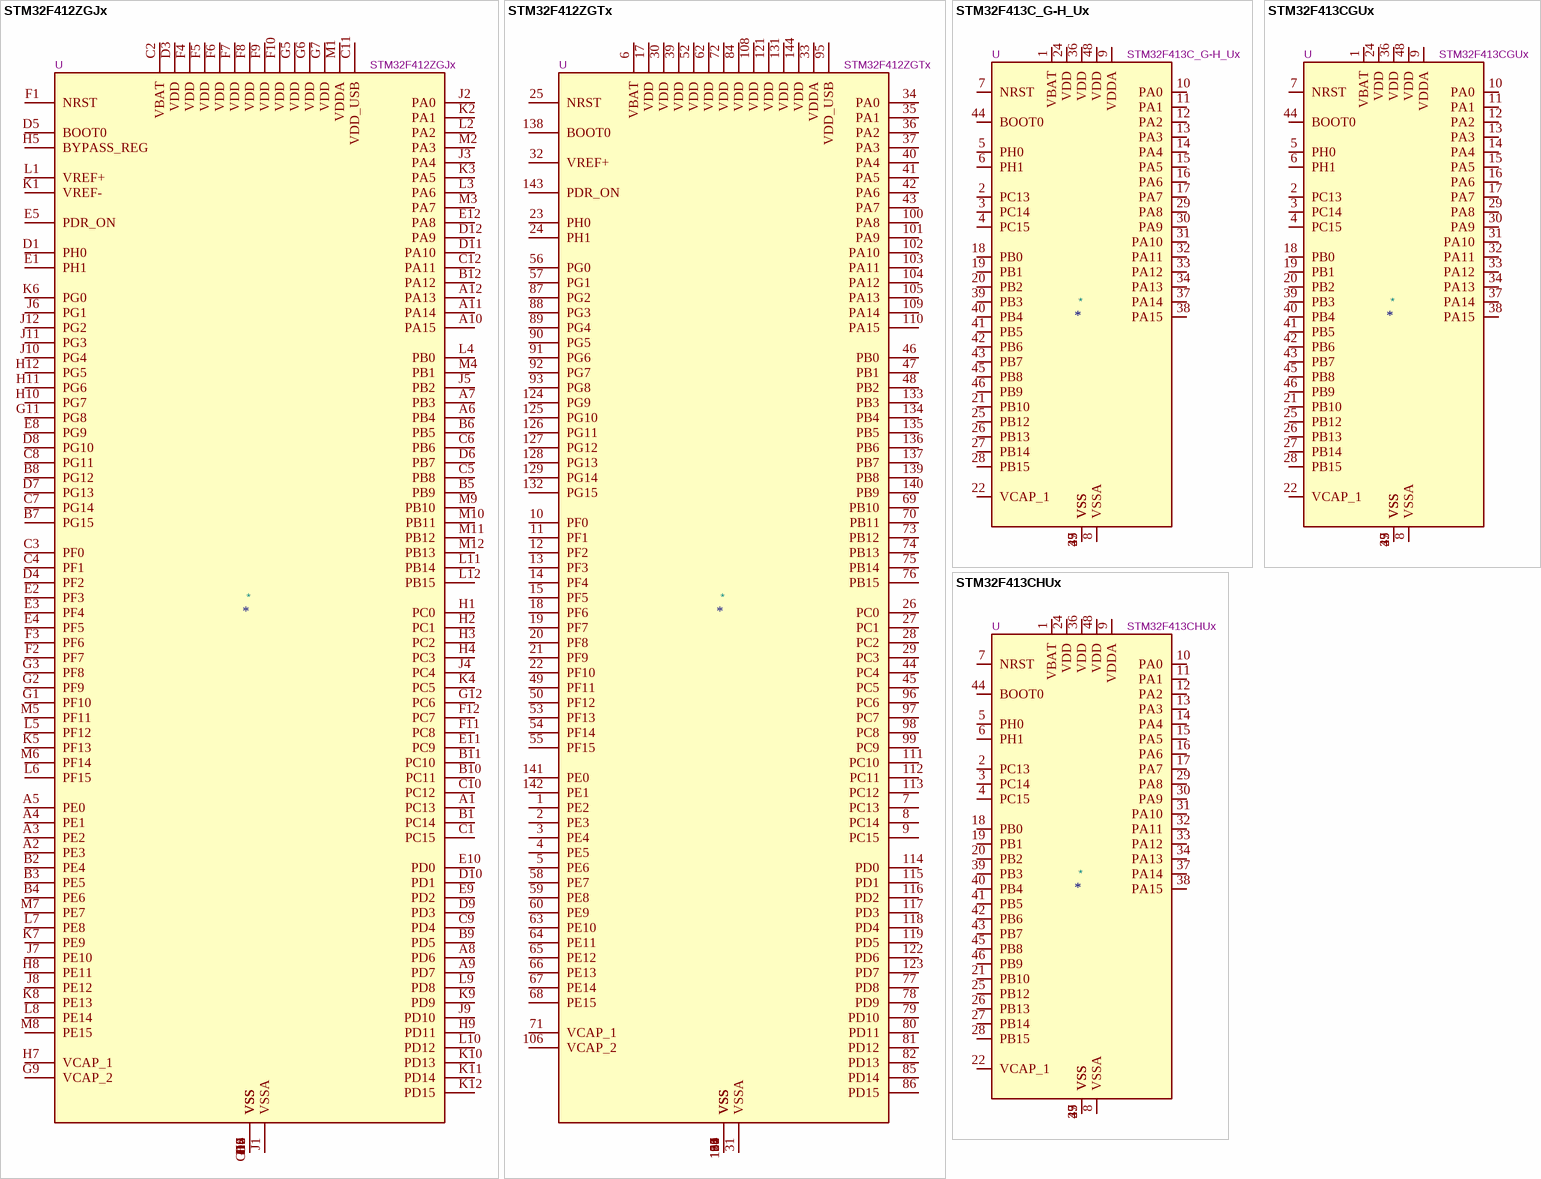
[diagram p18: symbols STM32F412ZGJx to STM32F413CHUx]

## STM32F412ZGJx
designator *  value STM32F412ZGJx  Reference: U
STMicroelectronics Arm Cortex-M4 MCU, 1024KB flash, 256KB RAM, 100 MHz, 1.7-3.6V, 114 GPIO, UFBGA144; ki_keywords: Arm Cortex-M4 STM32F4 STM32F412; ki_fp_filters: UFBGA*10x10mm*Layout12x12*P0.8mm*; Footprint: Package_BGA:UFBGA-144_10x10mm_Layout12x12_P0.8mm; Datasheet: https://www.st.com/resource/en/datasheet/stm32f412zg.pdf; Description_: STMicroelectronics Arm Cortex-M4 MCU, 1024KB flash, 256KB RAM, 100 MHz, 1.7-3.6V, 114 GPIO, UFBGA144
pins: A1 PC13, A2 PE3, A3 PE2, A4 PE1, A5 PE0, A6 PB4, A7 PB3, A8 PD6, A9 PD7, A10 PA15, A11 PA14, A12 PA13, B1 PC14, B2 PE4, B3 PE5, B4 PE6, B5 PB9, B6 PB5, B7 PG15, B8 PG12, B9 PD5, B10 PC11, B11 PC10, B12 PA12, C1 PC15, C2 VBAT, C3 PF0, C4 PF1, C5 PB8, C6 PB6, C7 PG14, C8 PG11, C9 PD4, C10 PC12, C11 VDD_USB, C12 PA11, D1 PH0, D2 VSS, D3 VDD, D4 PF2, D5 BOOT0, D6 PB7, D7 PG13, D8 PG10, D9 PD3, D10 PD1, D11 PA10, D12 PA9, E1 PH1, E2 PF3, E3 PF4, E4 PF5, E5 PDR_ON, E6 VSS, E7 VSS, E8 PG9, E9 PD2, E10 PD0, E11 PC9, E12 PA8, F1 NRST, F2 PF7, F3 PF6, F4 VDD, F5 VDD, F6 VDD, F7 VDD, F8 VDD, F9 VDD, F10 VDD, F11 PC8, F12 PC7, G1 PF10, G2 PF9, G3 PF8, G4 VSS, G5 VDD, G6 VDD, G7 VDD, G8 VSS, G9 VCAP_2, G10 VSS, G11 PG8, G12 PC6, H1 PC0, H2 PC1, H3 PC2, H4 PC3, H5 BYPASS_REG, H6 VSS, H7 VCAP_1, H8 PE11, H9 PD11, H10 PG7, H11 PG6, H12 PG5, J1 VSSA, J2 PA0, J3 PA4, J4 PC4, J5 PB2, J6 PG1, J7 PE10, J8 PE12, J9 PD10, J10 PG4, J11 PG3, J12 PG2, K1 VREF-, K2 PA1, K3 PA5, K4 PC5, K5 PF13, K6 PG0, K7 PE9, K8 PE13, K9 PD9, K10 PD13, K11 PD14, K12 PD15, L1 VREF+, L2 PA2, L3 PA6, L4 PB0, L5 PF12, L6 PF15, L7 PE8, L8 PE14, L9 PD8, L10 PD12, L11 PB14, L12 PB15, M1 VDDA, M2 PA3, M3 PA7, M4 PB1, M5 PF11, M6 PF14, M7 PE7, M8 PE15, M9 PB10, M10 PB11, M11 PB12, M12 PB13

## STM32F412ZGTx
designator *  value STM32F412ZGTx  Reference: U
STMicroelectronics Arm Cortex-M4 MCU, 1024KB flash, 256KB RAM, 100 MHz, 1.7-3.6V, 114 GPIO, LQFP144; ki_keywords: Arm Cortex-M4 STM32F4 STM32F412; ki_fp_filters: LQFP*20x20mm*P0.5mm*; Footprint: Package_QFP:LQFP-144_20x20mm_P0.5mm; Datasheet: https://www.st.com/resource/en/datasheet/stm32f412zg.pdf; Description_: STMicroelectronics Arm Cortex-M4 MCU, 1024KB flash, 256KB RAM, 100 MHz, 1.7-3.6V, 114 GPIO, LQFP144
pins: 1 PE2, 2 PE3, 3 PE4, 4 PE5, 5 PE6, 6 VBAT, 7 PC13, 8 PC14, 9 PC15, 10 PF0, 11 PF1, 12 PF2, 13 PF3, 14 PF4, 15 PF5, 16 VSS, 17 VDD, 18 PF6, 19 PF7, 20 PF8, 21 PF9, 22 PF10, 23 PH0, 24 PH1, 25 NRST, 26 PC0, 27 PC1, 28 PC2, 29 PC3, 30 VDD, 31 VSSA, 32 VREF+, 33 VDDA, 34 PA0, 35 PA1, 36 PA2, 37 PA3, 38 VSS, 39 VDD, 40 PA4, 41 PA5, 42 PA6, 43 PA7, 44 PC4, 45 PC5, 46 PB0, 47 PB1, 48 PB2, 49 PF11, 50 PF12, 51 VSS, 52 VDD, 53 PF13, 54 PF14, 55 PF15, 56 PG0, 57 PG1, 58 PE7, 59 PE8, 60 PE9, 61 VSS, 62 VDD, 63 PE10, 64 PE11, 65 PE12, 66 PE13, 67 PE14, 68 PE15, 69 PB10, 70 PB11, 71 VCAP_1, 72 VDD, 73 PB12, 74 PB13, 75 PB14, 76 PB15, 77 PD8, 78 PD9, 79 PD10, 80 PD11, 81 PD12, 82 PD13, 83 VSS, 84 VDD, 85 PD14, 86 PD15, 87 PG2, 88 PG3, 89 PG4, 90 PG5, 91 PG6, 92 PG7, 93 PG8, 94 VSS, 95 VDD_USB, 96 PC6, 97 PC7, 98 PC8, 99 PC9, 100 PA8, 101 PA9, 102 PA10, 103 PA11, 104 PA12, 105 PA13, 106 VCAP_2, 107 VSS, 108 VDD, 109 PA14, 110 PA15, 111 PC10, 112 PC11, 113 PC12, 114 PD0, 115 PD1, 116 PD2, 117 PD3, 118 PD4, 119 PD5, 120 VSS, 121 VDD, 122 PD6, 123 PD7, 124 PG9, 125 PG10, 126 PG11, 127 PG12, 128 PG13, 129 PG14, 130 VSS, 131 VDD, 132 PG15, 133 PB3, 134 PB4, 135 PB5, 136 PB6, 137 PB7, 138 BOOT0, 139 PB8, 140 PB9, 141 PE0, 142 PE1, 143 PDR_ON, 144 VDD

## STM32F413C_G-H_Ux
designator *  value STM32F413C_G-H_Ux  Reference: U
STMicroelectronics Arm Cortex-M4 MCU, 1024-1536KB flash, 320KB RAM, 100 MHz, 1.7-3.6V, 36 GPIO, UFQFPN48; ki_keywords: Arm Cortex-M4 STM32F4 STM32F413/423; ki_fp_filters: QFN*1EP*7x7mm*P0.5mm*; Footprint: Package_DFN_QFN:QFN-48-1EP_7x7mm_P0.5mm_EP5.6x5.6mm; Datasheet: https://www.st.com/resource/en/datasheet/stm32f413cg.pdf; Description_: STMicroelectronics Arm Cortex-M4 MCU, 1024-1536KB flash, 320KB RAM, 100 MHz, 1.7-3.6V, 36 GPIO, UFQFPN48
pins: 1 VBAT, 2 PC13, 3 PC14, 4 PC15, 5 PH0, 6 PH1, 7 NRST, 8 VSSA, 9 VDDA, 10 PA0, 11 PA1, 12 PA2, 13 PA3, 14 PA4, 15 PA5, 16 PA6, 17 PA7, 18 PB0, 19 PB1, 20 PB2, 21 PB10, 22 VCAP_1, 23 VSS, 24 VDD, 25 PB12, 26 PB13, 27 PB14, 28 PB15, 29 PA8, 30 PA9, 31 PA10, 32 PA11, 33 PA12, 34 PA13, 35 VSS, 36 VDD, 37 PA14, 38 PA15, 39 PB3, 40 PB4, 41 PB5, 42 PB6, 43 PB7, 44 BOOT0, 45 PB8, 46 PB9, 47 VSS, 48 VDD, 49 VSS

## STM32F413CGUx
designator *  value STM32F413CGUx  Reference: U
STMicroelectronics Arm Cortex-M4 MCU, 1024KB flash, 320KB RAM, 100 MHz, 1.7-3.6V, 36 GPIO, UFQFPN48; ki_keywords: Arm Cortex-M4 STM32F4 STM32F413/423; ki_fp_filters: QFN*1EP*7x7mm*P0.5mm*; Footprint: Package_DFN_QFN:QFN-48-1EP_7x7mm_P0.5mm_EP5.6x5.6mm; Datasheet: https://www.st.com/resource/en/datasheet/stm32f413cg.pdf; Description_: STMicroelectronics Arm Cortex-M4 MCU, 1024KB flash, 320KB RAM, 100 MHz, 1.7-3.6V, 36 GPIO, UFQFPN48
pins: 1 VBAT, 2 PC13, 3 PC14, 4 PC15, 5 PH0, 6 PH1, 7 NRST, 8 VSSA, 9 VDDA, 10 PA0, 11 PA1, 12 PA2, 13 PA3, 14 PA4, 15 PA5, 16 PA6, 17 PA7, 18 PB0, 19 PB1, 20 PB2, 21 PB10, 22 VCAP_1, 23 VSS, 24 VDD, 25 PB12, 26 PB13, 27 PB14, 28 PB15, 29 PA8, 30 PA9, 31 PA10, 32 PA11, 33 PA12, 34 PA13, 35 VSS, 36 VDD, 37 PA14, 38 PA15, 39 PB3, 40 PB4, 41 PB5, 42 PB6, 43 PB7, 44 BOOT0, 45 PB8, 46 PB9, 47 VSS, 48 VDD, 49 VSS

## STM32F413CHUx
designator *  value STM32F413CHUx  Reference: U
STMicroelectronics Arm Cortex-M4 MCU, 1536KB flash, 320KB RAM, 100 MHz, 1.7-3.6V, 36 GPIO, UFQFPN48; ki_keywords: Arm Cortex-M4 STM32F4 STM32F413/423; ki_fp_filters: QFN*1EP*7x7mm*P0.5mm*; Footprint: Package_DFN_QFN:QFN-48-1EP_7x7mm_P0.5mm_EP5.6x5.6mm; Datasheet: https://www.st.com/resource/en/datasheet/stm32f413ch.pdf; Description_: STMicroelectronics Arm Cortex-M4 MCU, 1536KB flash, 320KB RAM, 100 MHz, 1.7-3.6V, 36 GPIO, UFQFPN48
pins: 1 VBAT, 2 PC13, 3 PC14, 4 PC15, 5 PH0, 6 PH1, 7 NRST, 8 VSSA, 9 VDDA, 10 PA0, 11 PA1, 12 PA2, 13 PA3, 14 PA4, 15 PA5, 16 PA6, 17 PA7, 18 PB0, 19 PB1, 20 PB2, 21 PB10, 22 VCAP_1, 23 VSS, 24 VDD, 25 PB12, 26 PB13, 27 PB14, 28 PB15, 29 PA8, 30 PA9, 31 PA10, 32 PA11, 33 PA12, 34 PA13, 35 VSS, 36 VDD, 37 PA14, 38 PA15, 39 PB3, 40 PB4, 41 PB5, 42 PB6, 43 PB7, 44 BOOT0, 45 PB8, 46 PB9, 47 VSS, 48 VDD, 49 VSS

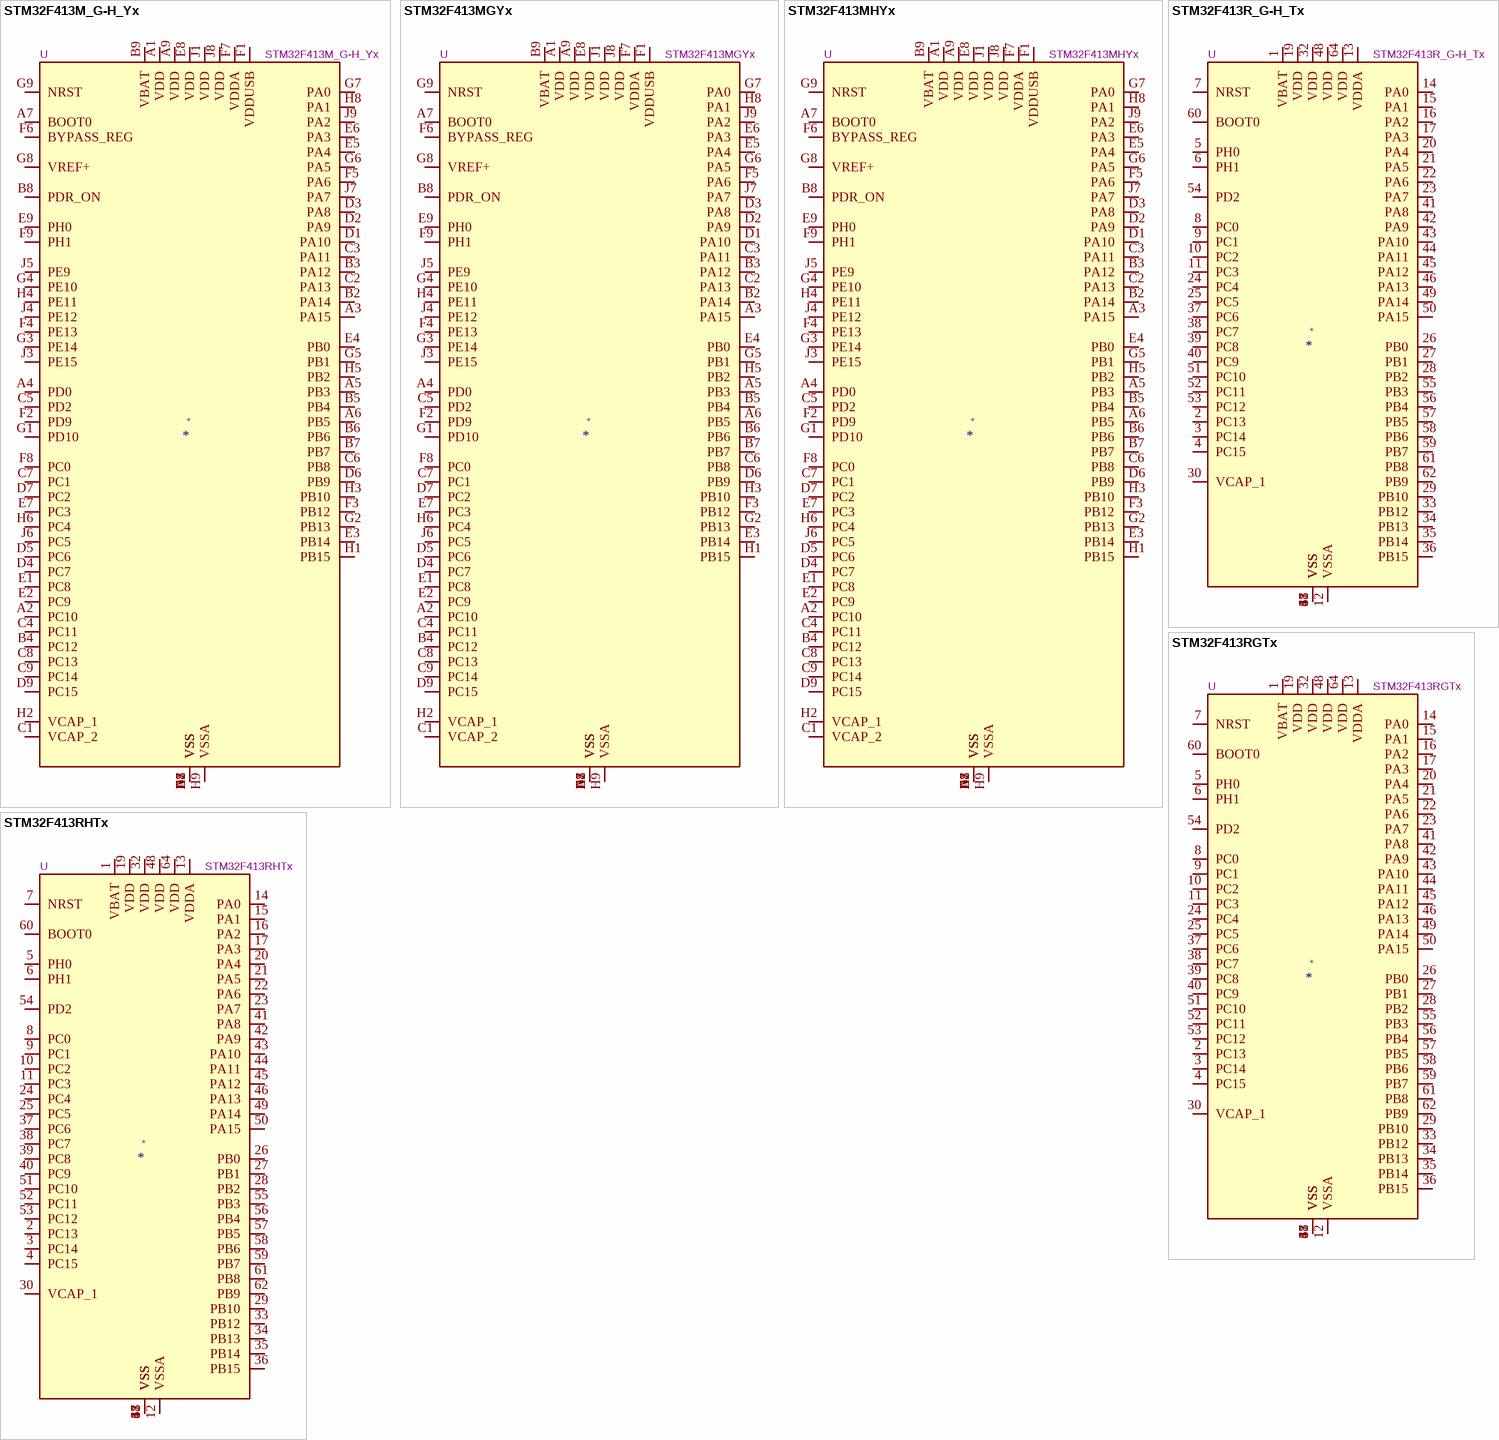
[diagram p19: symbols STM32F413M_G-H_Yx to STM32F413RHTx]

## STM32F413M_G-H_Yx
designator *  value STM32F413M_G-H_Yx  Reference: U
STMicroelectronics Arm Cortex-M4 MCU, 1024-1536KB flash, 320KB RAM, 100 MHz, 1.7-3.6V, 60 GPIO, WLCSP81; ki_keywords: Arm Cortex-M4 STM32F4 STM32F413/423; ki_fp_filters: ST*WLCSP*Die463*; Footprint: Package_CSP:ST_WLCSP-81_Die463; Datasheet: https://www.st.com/resource/en/datasheet/stm32f413mg.pdf; Description_: STMicroelectronics Arm Cortex-M4 MCU, 1024-1536KB flash, 320KB RAM, 100 MHz, 1.7-3.6V, 60 GPIO, WLCSP81
pins: A1 VDD, A2 PC10, A3 PA15, A4 PD0, A5 PB3, A6 PB5, A7 BOOT0, A8 VSS, A9 VDD, B1 VSS, B2 PA14, B3 PA12, B4 PC12, B5 PB4, B6 PB6, B7 PB7, B8 PDR_ON, B9 VBAT, C1 VCAP_2, C2 PA13, C3 PA11, C4 PC11, C5 PD2, C6 PB8, C7 PC1, C8 PC13, C9 PC14, D1 PA10, D2 PA9, D3 PA8, D4 PC7, D5 PC6, D6 PB9, D7 PC2, D8 VSS, D9 PC15, E1 PC8, E2 PC9, E3 PB14, E4 PB0, E5 PA4, E6 PA3, E7 PC3, E8 VDD, E9 PH0, F1 VDDUSB, F2 PD9, F3 PB12, F4 PE13, F5 PA6, F6 BYPASS_REG, F7 VDDA, F8 PC0, F9 PH1, G1 PD10, G2 PB13, G3 PE14, G4 PE10, G5 PB1, G6 PA5, G7 PA0, G8 VREF+, G9 NRST, H1 PB15, H2 VCAP_1, H3 PB10, H4 PE11, H5 PB2, H6 PC4, H7 VSS, H8 PA1, H9 VSSA, J1 VDD, J2 VSS, J3 PE15, J4 PE12, J5 PE9, J6 PC5, J7 PA7, J8 VDD, J9 PA2

## STM32F413MGYx
designator *  value STM32F413MGYx  Reference: U
STMicroelectronics Arm Cortex-M4 MCU, 1024KB flash, 320KB RAM, 100 MHz, 1.7-3.6V, 60 GPIO, WLCSP81; ki_keywords: Arm Cortex-M4 STM32F4 STM32F413/423; ki_fp_filters: ST*WLCSP*Die463*; Footprint: Package_CSP:ST_WLCSP-81_Die463; Datasheet: https://www.st.com/resource/en/datasheet/stm32f413mg.pdf; Description_: STMicroelectronics Arm Cortex-M4 MCU, 1024KB flash, 320KB RAM, 100 MHz, 1.7-3.6V, 60 GPIO, WLCSP81
pins: A1 VDD, A2 PC10, A3 PA15, A4 PD0, A5 PB3, A6 PB5, A7 BOOT0, A8 VSS, A9 VDD, B1 VSS, B2 PA14, B3 PA12, B4 PC12, B5 PB4, B6 PB6, B7 PB7, B8 PDR_ON, B9 VBAT, C1 VCAP_2, C2 PA13, C3 PA11, C4 PC11, C5 PD2, C6 PB8, C7 PC1, C8 PC13, C9 PC14, D1 PA10, D2 PA9, D3 PA8, D4 PC7, D5 PC6, D6 PB9, D7 PC2, D8 VSS, D9 PC15, E1 PC8, E2 PC9, E3 PB14, E4 PB0, E5 PA4, E6 PA3, E7 PC3, E8 VDD, E9 PH0, F1 VDDUSB, F2 PD9, F3 PB12, F4 PE13, F5 PA6, F6 BYPASS_REG, F7 VDDA, F8 PC0, F9 PH1, G1 PD10, G2 PB13, G3 PE14, G4 PE10, G5 PB1, G6 PA5, G7 PA0, G8 VREF+, G9 NRST, H1 PB15, H2 VCAP_1, H3 PB10, H4 PE11, H5 PB2, H6 PC4, H7 VSS, H8 PA1, H9 VSSA, J1 VDD, J2 VSS, J3 PE15, J4 PE12, J5 PE9, J6 PC5, J7 PA7, J8 VDD, J9 PA2

## STM32F413MHYx
designator *  value STM32F413MHYx  Reference: U
STMicroelectronics Arm Cortex-M4 MCU, 1536KB flash, 320KB RAM, 100 MHz, 1.7-3.6V, 60 GPIO, WLCSP81; ki_keywords: Arm Cortex-M4 STM32F4 STM32F413/423; ki_fp_filters: ST*WLCSP*Die463*; Footprint: Package_CSP:ST_WLCSP-81_Die463; Datasheet: https://www.st.com/resource/en/datasheet/stm32f413mh.pdf; Description_: STMicroelectronics Arm Cortex-M4 MCU, 1536KB flash, 320KB RAM, 100 MHz, 1.7-3.6V, 60 GPIO, WLCSP81
pins: A1 VDD, A2 PC10, A3 PA15, A4 PD0, A5 PB3, A6 PB5, A7 BOOT0, A8 VSS, A9 VDD, B1 VSS, B2 PA14, B3 PA12, B4 PC12, B5 PB4, B6 PB6, B7 PB7, B8 PDR_ON, B9 VBAT, C1 VCAP_2, C2 PA13, C3 PA11, C4 PC11, C5 PD2, C6 PB8, C7 PC1, C8 PC13, C9 PC14, D1 PA10, D2 PA9, D3 PA8, D4 PC7, D5 PC6, D6 PB9, D7 PC2, D8 VSS, D9 PC15, E1 PC8, E2 PC9, E3 PB14, E4 PB0, E5 PA4, E6 PA3, E7 PC3, E8 VDD, E9 PH0, F1 VDDUSB, F2 PD9, F3 PB12, F4 PE13, F5 PA6, F6 BYPASS_REG, F7 VDDA, F8 PC0, F9 PH1, G1 PD10, G2 PB13, G3 PE14, G4 PE10, G5 PB1, G6 PA5, G7 PA0, G8 VREF+, G9 NRST, H1 PB15, H2 VCAP_1, H3 PB10, H4 PE11, H5 PB2, H6 PC4, H7 VSS, H8 PA1, H9 VSSA, J1 VDD, J2 VSS, J3 PE15, J4 PE12, J5 PE9, J6 PC5, J7 PA7, J8 VDD, J9 PA2

## STM32F413R_G-H_Tx
designator *  value STM32F413R_G-H_Tx  Reference: U
STMicroelectronics Arm Cortex-M4 MCU, 1024-1536KB flash, 320KB RAM, 100 MHz, 1.7-3.6V, 50 GPIO, LQFP64; ki_keywords: Arm Cortex-M4 STM32F4 STM32F413/423; ki_fp_filters: LQFP*10x10mm*P0.5mm*; Footprint: Package_QFP:LQFP-64_10x10mm_P0.5mm; Datasheet: https://www.st.com/resource/en/datasheet/stm32f413rg.pdf; Description_: STMicroelectronics Arm Cortex-M4 MCU, 1024-1536KB flash, 320KB RAM, 100 MHz, 1.7-3.6V, 50 GPIO, LQFP64
pins: 1 VBAT, 2 PC13, 3 PC14, 4 PC15, 5 PH0, 6 PH1, 7 NRST, 8 PC0, 9 PC1, 10 PC2, 11 PC3, 12 VSSA, 13 VDDA, 14 PA0, 15 PA1, 16 PA2, 17 PA3, 18 VSS, 19 VDD, 20 PA4, 21 PA5, 22 PA6, 23 PA7, 24 PC4, 25 PC5, 26 PB0, 27 PB1, 28 PB2, 29 PB10, 30 VCAP_1, 31 VSS, 32 VDD, 33 PB12, 34 PB13, 35 PB14, 36 PB15, 37 PC6, 38 PC7, 39 PC8, 40 PC9, 41 PA8, 42 PA9, 43 PA10, 44 PA11, 45 PA12, 46 PA13, 47 VSS, 48 VDD, 49 PA14, 50 PA15, 51 PC10, 52 PC11, 53 PC12, 54 PD2, 55 PB3, 56 PB4, 57 PB5, 58 PB6, 59 PB7, 60 BOOT0, 61 PB8, 62 PB9, 63 VSS, 64 VDD

## STM32F413RGTx
designator *  value STM32F413RGTx  Reference: U
STMicroelectronics Arm Cortex-M4 MCU, 1024KB flash, 320KB RAM, 100 MHz, 1.7-3.6V, 50 GPIO, LQFP64; ki_keywords: Arm Cortex-M4 STM32F4 STM32F413/423; ki_fp_filters: LQFP*10x10mm*P0.5mm*; Footprint: Package_QFP:LQFP-64_10x10mm_P0.5mm; Datasheet: https://www.st.com/resource/en/datasheet/stm32f413rg.pdf; Description_: STMicroelectronics Arm Cortex-M4 MCU, 1024KB flash, 320KB RAM, 100 MHz, 1.7-3.6V, 50 GPIO, LQFP64
pins: 1 VBAT, 2 PC13, 3 PC14, 4 PC15, 5 PH0, 6 PH1, 7 NRST, 8 PC0, 9 PC1, 10 PC2, 11 PC3, 12 VSSA, 13 VDDA, 14 PA0, 15 PA1, 16 PA2, 17 PA3, 18 VSS, 19 VDD, 20 PA4, 21 PA5, 22 PA6, 23 PA7, 24 PC4, 25 PC5, 26 PB0, 27 PB1, 28 PB2, 29 PB10, 30 VCAP_1, 31 VSS, 32 VDD, 33 PB12, 34 PB13, 35 PB14, 36 PB15, 37 PC6, 38 PC7, 39 PC8, 40 PC9, 41 PA8, 42 PA9, 43 PA10, 44 PA11, 45 PA12, 46 PA13, 47 VSS, 48 VDD, 49 PA14, 50 PA15, 51 PC10, 52 PC11, 53 PC12, 54 PD2, 55 PB3, 56 PB4, 57 PB5, 58 PB6, 59 PB7, 60 BOOT0, 61 PB8, 62 PB9, 63 VSS, 64 VDD

## STM32F413RHTx
designator *  value STM32F413RHTx  Reference: U
STMicroelectronics Arm Cortex-M4 MCU, 1536KB flash, 320KB RAM, 100 MHz, 1.7-3.6V, 50 GPIO, LQFP64; ki_keywords: Arm Cortex-M4 STM32F4 STM32F413/423; ki_fp_filters: LQFP*10x10mm*P0.5mm*; Footprint: Package_QFP:LQFP-64_10x10mm_P0.5mm; Datasheet: https://www.st.com/resource/en/datasheet/stm32f413rh.pdf; Description_: STMicroelectronics Arm Cortex-M4 MCU, 1536KB flash, 320KB RAM, 100 MHz, 1.7-3.6V, 50 GPIO, LQFP64
pins: 1 VBAT, 2 PC13, 3 PC14, 4 PC15, 5 PH0, 6 PH1, 7 NRST, 8 PC0, 9 PC1, 10 PC2, 11 PC3, 12 VSSA, 13 VDDA, 14 PA0, 15 PA1, 16 PA2, 17 PA3, 18 VSS, 19 VDD, 20 PA4, 21 PA5, 22 PA6, 23 PA7, 24 PC4, 25 PC5, 26 PB0, 27 PB1, 28 PB2, 29 PB10, 30 VCAP_1, 31 VSS, 32 VDD, 33 PB12, 34 PB13, 35 PB14, 36 PB15, 37 PC6, 38 PC7, 39 PC8, 40 PC9, 41 PA8, 42 PA9, 43 PA10, 44 PA11, 45 PA12, 46 PA13, 47 VSS, 48 VDD, 49 PA14, 50 PA15, 51 PC10, 52 PC11, 53 PC12, 54 PD2, 55 PB3, 56 PB4, 57 PB5, 58 PB6, 59 PB7, 60 BOOT0, 61 PB8, 62 PB9, 63 VSS, 64 VDD

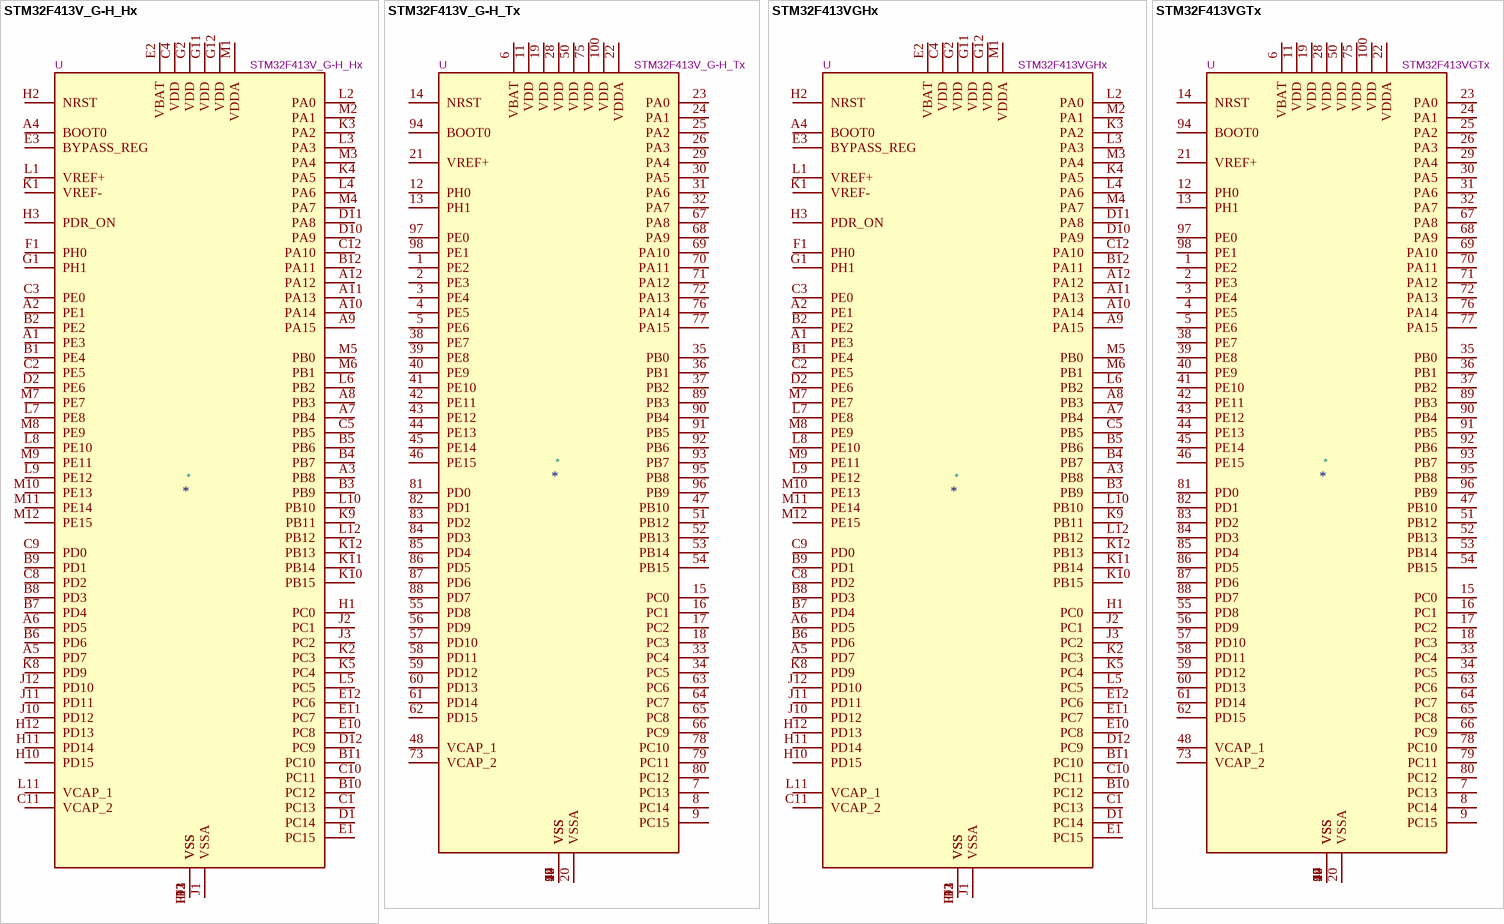
[diagram p20: symbols STM32F413V_G-H_Hx to STM32F413VGTx]

## STM32F413V_G-H_Hx
designator *  value STM32F413V_G-H_Hx  Reference: U
STMicroelectronics Arm Cortex-M4 MCU, 1024-1536KB flash, 320KB RAM, 100 MHz, 1.7-3.6V, 81 GPIO, UFBGA100; ki_keywords: Arm Cortex-M4 STM32F4 STM32F413/423; ki_fp_filters: UFBGA*7x7mm*Layout12x12*P0.5mm*; Footprint: Package_BGA:UFBGA-100_7x7mm_Layout12x12_P0.5mm; Datasheet: https://www.st.com/resource/en/datasheet/stm32f413vg.pdf; Description_: STMicroelectronics Arm Cortex-M4 MCU, 1024-1536KB flash, 320KB RAM, 100 MHz, 1.7-3.6V, 81 GPIO, UFBGA100
pins: A1 PE3, A2 PE1, A3 PB8, A4 BOOT0, A5 PD7, A6 PD5, A7 PB4, A8 PB3, A9 PA15, A10 PA14, A11 PA13, A12 PA12, B1 PE4, B2 PE2, B3 PB9, B4 PB7, B5 PB6, B6 PD6, B7 PD4, B8 PD3, B9 PD1, B10 PC12, B11 PC10, B12 PA11, C1 PC13, C2 PE5, C3 PE0, C4 VDD, C5 PB5, C8 PD2, C9 PD0, C10 PC11, C11 VCAP_2, C12 PA10, D1 PC14, D2 PE6, D3 VSS, D10 PA9, D11 PA8, D12 PC9, E1 PC15, E2 VBAT, E3 BYPASS_REG, E10 PC8, E11 PC7, E12 PC6, F1 PH0, F2 VSS, F11 VSS, F12 VSS, G1 PH1, G2 VDD, G11 VDD, G12 VDD, H1 PC0, H2 NRST, H3 PDR_ON, H10 PD15, H11 PD14, H12 PD13, J1 VSSA, J2 PC1, J3 PC2, J10 PD12, J11 PD11, J12 PD10, K1 VREF-, K2 PC3, K3 PA2, K4 PA5, K5 PC4, K8 PD9, K9 PB11, K10 PB15, K11 PB14, K12 PB13, L1 VREF+, L2 PA0, L3 PA3, L4 PA6, L5 PC5, L6 PB2, L7 PE8, L8 PE10, L9 PE12, L10 PB10, L11 VCAP_1, L12 PB12, M1 VDDA, M2 PA1, M3 PA4, M4 PA7, M5 PB0, M6 PB1, M7 PE7, M8 PE9, M9 PE11, M10 PE13, M11 PE14, M12 PE15

## STM32F413V_G-H_Tx
designator *  value STM32F413V_G-H_Tx  Reference: U
STMicroelectronics Arm Cortex-M4 MCU, 1024-1536KB flash, 320KB RAM, 100 MHz, 1.7-3.6V, 81 GPIO, LQFP100; ki_keywords: Arm Cortex-M4 STM32F4 STM32F413/423; ki_fp_filters: LQFP*14x14mm*P0.5mm*; Footprint: Package_QFP:LQFP-100_14x14mm_P0.5mm; Datasheet: https://www.st.com/resource/en/datasheet/stm32f413vg.pdf; Description_: STMicroelectronics Arm Cortex-M4 MCU, 1024-1536KB flash, 320KB RAM, 100 MHz, 1.7-3.6V, 81 GPIO, LQFP100
pins: 1 PE2, 2 PE3, 3 PE4, 4 PE5, 5 PE6, 6 VBAT, 7 PC13, 8 PC14, 9 PC15, 10 VSS, 11 VDD, 12 PH0, 13 PH1, 14 NRST, 15 PC0, 16 PC1, 17 PC2, 18 PC3, 19 VDD, 20 VSSA, 21 VREF+, 22 VDDA, 23 PA0, 24 PA1, 25 PA2, 26 PA3, 27 VSS, 28 VDD, 29 PA4, 30 PA5, 31 PA6, 32 PA7, 33 PC4, 34 PC5, 35 PB0, 36 PB1, 37 PB2, 38 PE7, 39 PE8, 40 PE9, 41 PE10, 42 PE11, 43 PE12, 44 PE13, 45 PE14, 46 PE15, 47 PB10, 48 VCAP_1, 49 VSS, 50 VDD, 51 PB12, 52 PB13, 53 PB14, 54 PB15, 55 PD8, 56 PD9, 57 PD10, 58 PD11, 59 PD12, 60 PD13, 61 PD14, 62 PD15, 63 PC6, 64 PC7, 65 PC8, 66 PC9, 67 PA8, 68 PA9, 69 PA10, 70 PA11, 71 PA12, 72 PA13, 73 VCAP_2, 74 VSS, 75 VDD, 76 PA14, 77 PA15, 78 PC10, 79 PC11, 80 PC12, 81 PD0, 82 PD1, 83 PD2, 84 PD3, 85 PD4, 86 PD5, 87 PD6, 88 PD7, 89 PB3, 90 PB4, 91 PB5, 92 PB6, 93 PB7, 94 BOOT0, 95 PB8, 96 PB9, 97 PE0, 98 PE1, 99 VSS, 100 VDD

## STM32F413VGHx
designator *  value STM32F413VGHx  Reference: U
STMicroelectronics Arm Cortex-M4 MCU, 1024KB flash, 320KB RAM, 100 MHz, 1.7-3.6V, 81 GPIO, UFBGA100; ki_keywords: Arm Cortex-M4 STM32F4 STM32F413/423; ki_fp_filters: UFBGA*7x7mm*Layout12x12*P0.5mm*; Footprint: Package_BGA:UFBGA-100_7x7mm_Layout12x12_P0.5mm; Datasheet: https://www.st.com/resource/en/datasheet/stm32f413vg.pdf; Description_: STMicroelectronics Arm Cortex-M4 MCU, 1024KB flash, 320KB RAM, 100 MHz, 1.7-3.6V, 81 GPIO, UFBGA100
pins: A1 PE3, A2 PE1, A3 PB8, A4 BOOT0, A5 PD7, A6 PD5, A7 PB4, A8 PB3, A9 PA15, A10 PA14, A11 PA13, A12 PA12, B1 PE4, B2 PE2, B3 PB9, B4 PB7, B5 PB6, B6 PD6, B7 PD4, B8 PD3, B9 PD1, B10 PC12, B11 PC10, B12 PA11, C1 PC13, C2 PE5, C3 PE0, C4 VDD, C5 PB5, C8 PD2, C9 PD0, C10 PC11, C11 VCAP_2, C12 PA10, D1 PC14, D2 PE6, D3 VSS, D10 PA9, D11 PA8, D12 PC9, E1 PC15, E2 VBAT, E3 BYPASS_REG, E10 PC8, E11 PC7, E12 PC6, F1 PH0, F2 VSS, F11 VSS, F12 VSS, G1 PH1, G2 VDD, G11 VDD, G12 VDD, H1 PC0, H2 NRST, H3 PDR_ON, H10 PD15, H11 PD14, H12 PD13, J1 VSSA, J2 PC1, J3 PC2, J10 PD12, J11 PD11, J12 PD10, K1 VREF-, K2 PC3, K3 PA2, K4 PA5, K5 PC4, K8 PD9, K9 PB11, K10 PB15, K11 PB14, K12 PB13, L1 VREF+, L2 PA0, L3 PA3, L4 PA6, L5 PC5, L6 PB2, L7 PE8, L8 PE10, L9 PE12, L10 PB10, L11 VCAP_1, L12 PB12, M1 VDDA, M2 PA1, M3 PA4, M4 PA7, M5 PB0, M6 PB1, M7 PE7, M8 PE9, M9 PE11, M10 PE13, M11 PE14, M12 PE15

## STM32F413VGTx
designator *  value STM32F413VGTx  Reference: U
STMicroelectronics Arm Cortex-M4 MCU, 1024KB flash, 320KB RAM, 100 MHz, 1.7-3.6V, 81 GPIO, LQFP100; ki_keywords: Arm Cortex-M4 STM32F4 STM32F413/423; ki_fp_filters: LQFP*14x14mm*P0.5mm*; Footprint: Package_QFP:LQFP-100_14x14mm_P0.5mm; Datasheet: https://www.st.com/resource/en/datasheet/stm32f413vg.pdf; Description_: STMicroelectronics Arm Cortex-M4 MCU, 1024KB flash, 320KB RAM, 100 MHz, 1.7-3.6V, 81 GPIO, LQFP100
pins: 1 PE2, 2 PE3, 3 PE4, 4 PE5, 5 PE6, 6 VBAT, 7 PC13, 8 PC14, 9 PC15, 10 VSS, 11 VDD, 12 PH0, 13 PH1, 14 NRST, 15 PC0, 16 PC1, 17 PC2, 18 PC3, 19 VDD, 20 VSSA, 21 VREF+, 22 VDDA, 23 PA0, 24 PA1, 25 PA2, 26 PA3, 27 VSS, 28 VDD, 29 PA4, 30 PA5, 31 PA6, 32 PA7, 33 PC4, 34 PC5, 35 PB0, 36 PB1, 37 PB2, 38 PE7, 39 PE8, 40 PE9, 41 PE10, 42 PE11, 43 PE12, 44 PE13, 45 PE14, 46 PE15, 47 PB10, 48 VCAP_1, 49 VSS, 50 VDD, 51 PB12, 52 PB13, 53 PB14, 54 PB15, 55 PD8, 56 PD9, 57 PD10, 58 PD11, 59 PD12, 60 PD13, 61 PD14, 62 PD15, 63 PC6, 64 PC7, 65 PC8, 66 PC9, 67 PA8, 68 PA9, 69 PA10, 70 PA11, 71 PA12, 72 PA13, 73 VCAP_2, 74 VSS, 75 VDD, 76 PA14, 77 PA15, 78 PC10, 79 PC11, 80 PC12, 81 PD0, 82 PD1, 83 PD2, 84 PD3, 85 PD4, 86 PD5, 87 PD6, 88 PD7, 89 PB3, 90 PB4, 91 PB5, 92 PB6, 93 PB7, 94 BOOT0, 95 PB8, 96 PB9, 97 PE0, 98 PE1, 99 VSS, 100 VDD

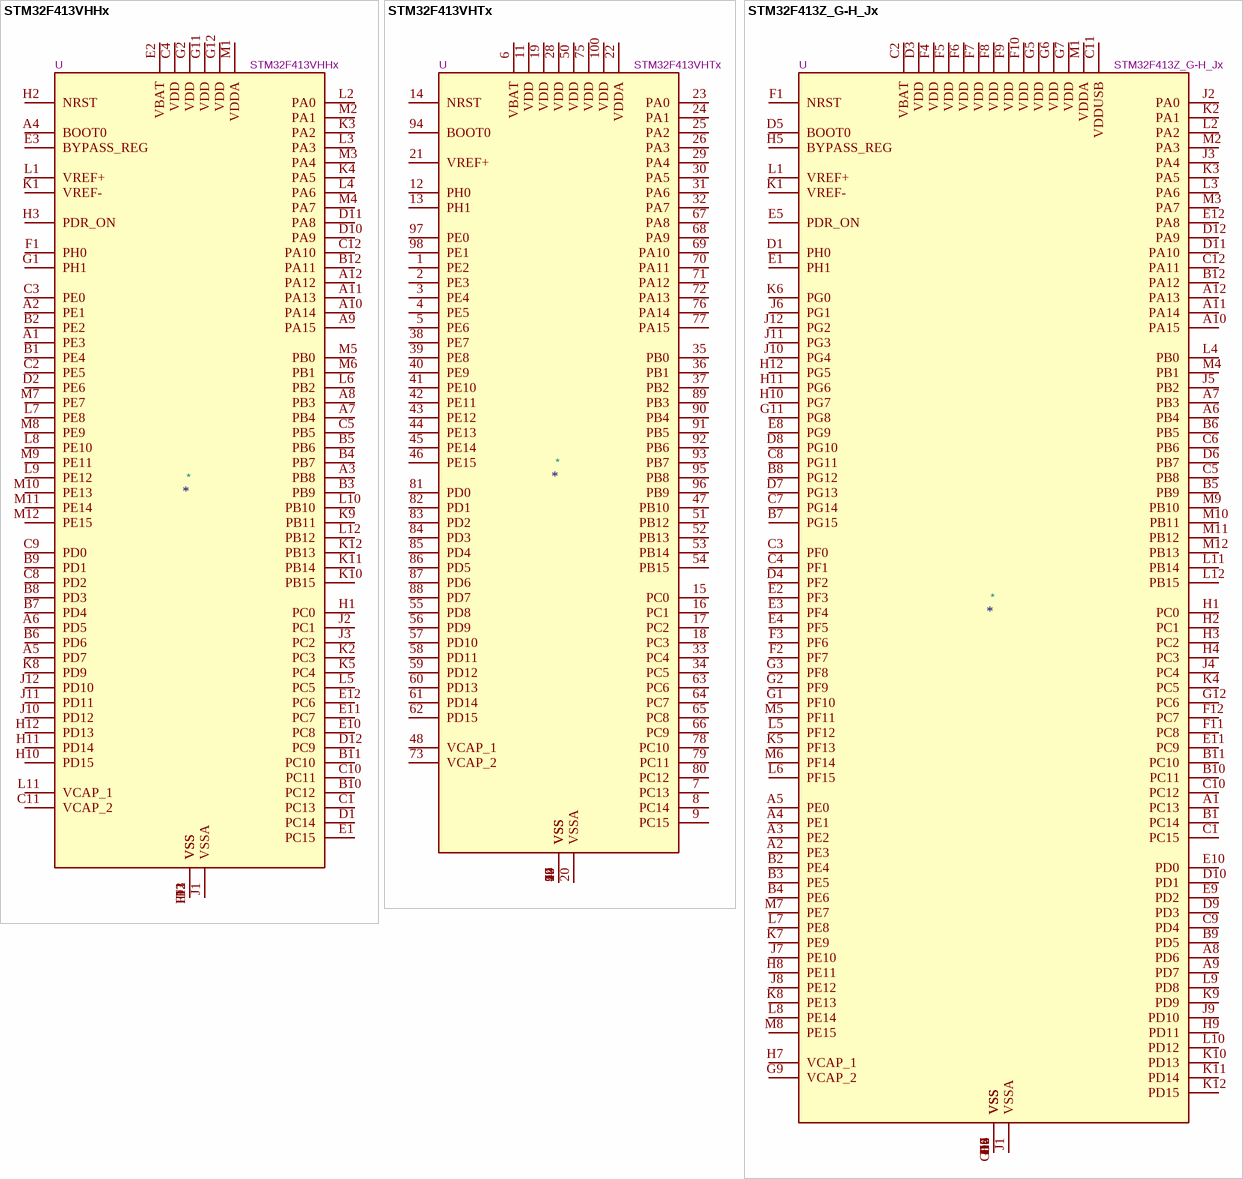
[diagram p21: symbols STM32F413VHHx to STM32F413Z_G-H_Jx]

## STM32F413VHHx
designator *  value STM32F413VHHx  Reference: U
STMicroelectronics Arm Cortex-M4 MCU, 1536KB flash, 320KB RAM, 100 MHz, 1.7-3.6V, 81 GPIO, UFBGA100; ki_keywords: Arm Cortex-M4 STM32F4 STM32F413/423; ki_fp_filters: UFBGA*7x7mm*Layout12x12*P0.5mm*; Footprint: Package_BGA:UFBGA-100_7x7mm_Layout12x12_P0.5mm; Datasheet: https://www.st.com/resource/en/datasheet/stm32f413vh.pdf; Description_: STMicroelectronics Arm Cortex-M4 MCU, 1536KB flash, 320KB RAM, 100 MHz, 1.7-3.6V, 81 GPIO, UFBGA100
pins: A1 PE3, A2 PE1, A3 PB8, A4 BOOT0, A5 PD7, A6 PD5, A7 PB4, A8 PB3, A9 PA15, A10 PA14, A11 PA13, A12 PA12, B1 PE4, B2 PE2, B3 PB9, B4 PB7, B5 PB6, B6 PD6, B7 PD4, B8 PD3, B9 PD1, B10 PC12, B11 PC10, B12 PA11, C1 PC13, C2 PE5, C3 PE0, C4 VDD, C5 PB5, C8 PD2, C9 PD0, C10 PC11, C11 VCAP_2, C12 PA10, D1 PC14, D2 PE6, D3 VSS, D10 PA9, D11 PA8, D12 PC9, E1 PC15, E2 VBAT, E3 BYPASS_REG, E10 PC8, E11 PC7, E12 PC6, F1 PH0, F2 VSS, F11 VSS, F12 VSS, G1 PH1, G2 VDD, G11 VDD, G12 VDD, H1 PC0, H2 NRST, H3 PDR_ON, H10 PD15, H11 PD14, H12 PD13, J1 VSSA, J2 PC1, J3 PC2, J10 PD12, J11 PD11, J12 PD10, K1 VREF-, K2 PC3, K3 PA2, K4 PA5, K5 PC4, K8 PD9, K9 PB11, K10 PB15, K11 PB14, K12 PB13, L1 VREF+, L2 PA0, L3 PA3, L4 PA6, L5 PC5, L6 PB2, L7 PE8, L8 PE10, L9 PE12, L10 PB10, L11 VCAP_1, L12 PB12, M1 VDDA, M2 PA1, M3 PA4, M4 PA7, M5 PB0, M6 PB1, M7 PE7, M8 PE9, M9 PE11, M10 PE13, M11 PE14, M12 PE15

## STM32F413VHTx
designator *  value STM32F413VHTx  Reference: U
STMicroelectronics Arm Cortex-M4 MCU, 1536KB flash, 320KB RAM, 100 MHz, 1.7-3.6V, 81 GPIO, LQFP100; ki_keywords: Arm Cortex-M4 STM32F4 STM32F413/423; ki_fp_filters: LQFP*14x14mm*P0.5mm*; Footprint: Package_QFP:LQFP-100_14x14mm_P0.5mm; Datasheet: https://www.st.com/resource/en/datasheet/stm32f413vh.pdf; Description_: STMicroelectronics Arm Cortex-M4 MCU, 1536KB flash, 320KB RAM, 100 MHz, 1.7-3.6V, 81 GPIO, LQFP100
pins: 1 PE2, 2 PE3, 3 PE4, 4 PE5, 5 PE6, 6 VBAT, 7 PC13, 8 PC14, 9 PC15, 10 VSS, 11 VDD, 12 PH0, 13 PH1, 14 NRST, 15 PC0, 16 PC1, 17 PC2, 18 PC3, 19 VDD, 20 VSSA, 21 VREF+, 22 VDDA, 23 PA0, 24 PA1, 25 PA2, 26 PA3, 27 VSS, 28 VDD, 29 PA4, 30 PA5, 31 PA6, 32 PA7, 33 PC4, 34 PC5, 35 PB0, 36 PB1, 37 PB2, 38 PE7, 39 PE8, 40 PE9, 41 PE10, 42 PE11, 43 PE12, 44 PE13, 45 PE14, 46 PE15, 47 PB10, 48 VCAP_1, 49 VSS, 50 VDD, 51 PB12, 52 PB13, 53 PB14, 54 PB15, 55 PD8, 56 PD9, 57 PD10, 58 PD11, 59 PD12, 60 PD13, 61 PD14, 62 PD15, 63 PC6, 64 PC7, 65 PC8, 66 PC9, 67 PA8, 68 PA9, 69 PA10, 70 PA11, 71 PA12, 72 PA13, 73 VCAP_2, 74 VSS, 75 VDD, 76 PA14, 77 PA15, 78 PC10, 79 PC11, 80 PC12, 81 PD0, 82 PD1, 83 PD2, 84 PD3, 85 PD4, 86 PD5, 87 PD6, 88 PD7, 89 PB3, 90 PB4, 91 PB5, 92 PB6, 93 PB7, 94 BOOT0, 95 PB8, 96 PB9, 97 PE0, 98 PE1, 99 VSS, 100 VDD

## STM32F413Z_G-H_Jx
designator *  value STM32F413Z_G-H_Jx  Reference: U
STMicroelectronics Arm Cortex-M4 MCU, 1024-1536KB flash, 320KB RAM, 100 MHz, 1.7-3.6V, 114 GPIO, UFBGA144; ki_keywords: Arm Cortex-M4 STM32F4 STM32F413/423; ki_fp_filters: UFBGA*10x10mm*Layout12x12*P0.8mm*; Footprint: Package_BGA:UFBGA-144_10x10mm_Layout12x12_P0.8mm; Datasheet: https://www.st.com/resource/en/datasheet/stm32f413zg.pdf; Description_: STMicroelectronics Arm Cortex-M4 MCU, 1024-1536KB flash, 320KB RAM, 100 MHz, 1.7-3.6V, 114 GPIO, UFBGA144
pins: A1 PC13, A2 PE3, A3 PE2, A4 PE1, A5 PE0, A6 PB4, A7 PB3, A8 PD6, A9 PD7, A10 PA15, A11 PA14, A12 PA13, B1 PC14, B2 PE4, B3 PE5, B4 PE6, B5 PB9, B6 PB5, B7 PG15, B8 PG12, B9 PD5, B10 PC11, B11 PC10, B12 PA12, C1 PC15, C2 VBAT, C3 PF0, C4 PF1, C5 PB8, C6 PB6, C7 PG14, C8 PG11, C9 PD4, C10 PC12, C11 VDDUSB, C12 PA11, D1 PH0, D2 VSS, D3 VDD, D4 PF2, D5 BOOT0, D6 PB7, D7 PG13, D8 PG10, D9 PD3, D10 PD1, D11 PA10, D12 PA9, E1 PH1, E2 PF3, E3 PF4, E4 PF5, E5 PDR_ON, E6 VSS, E7 VSS, E8 PG9, E9 PD2, E10 PD0, E11 PC9, E12 PA8, F1 NRST, F2 PF7, F3 PF6, F4 VDD, F5 VDD, F6 VDD, F7 VDD, F8 VDD, F9 VDD, F10 VDD, F11 PC8, F12 PC7, G1 PF10, G2 PF9, G3 PF8, G4 VSS, G5 VDD, G6 VDD, G7 VDD, G8 VSS, G9 VCAP_2, G10 VSS, G11 PG8, G12 PC6, H1 PC0, H2 PC1, H3 PC2, H4 PC3, H5 BYPASS_REG, H6 VSS, H7 VCAP_1, H8 PE11, H9 PD11, H10 PG7, H11 PG6, H12 PG5, J1 VSSA, J2 PA0, J3 PA4, J4 PC4, J5 PB2, J6 PG1, J7 PE10, J8 PE12, J9 PD10, J10 PG4, J11 PG3, J12 PG2, K1 VREF-, K2 PA1, K3 PA5, K4 PC5, K5 PF13, K6 PG0, K7 PE9, K8 PE13, K9 PD9, K10 PD13, K11 PD14, K12 PD15, L1 VREF+, L2 PA2, L3 PA6, L4 PB0, L5 PF12, L6 PF15, L7 PE8, L8 PE14, L9 PD8, L10 PD12, L11 PB14, L12 PB15, M1 VDDA, M2 PA3, M3 PA7, M4 PB1, M5 PF11, M6 PF14, M7 PE7, M8 PE15, M9 PB10, M10 PB11, M11 PB12, M12 PB13

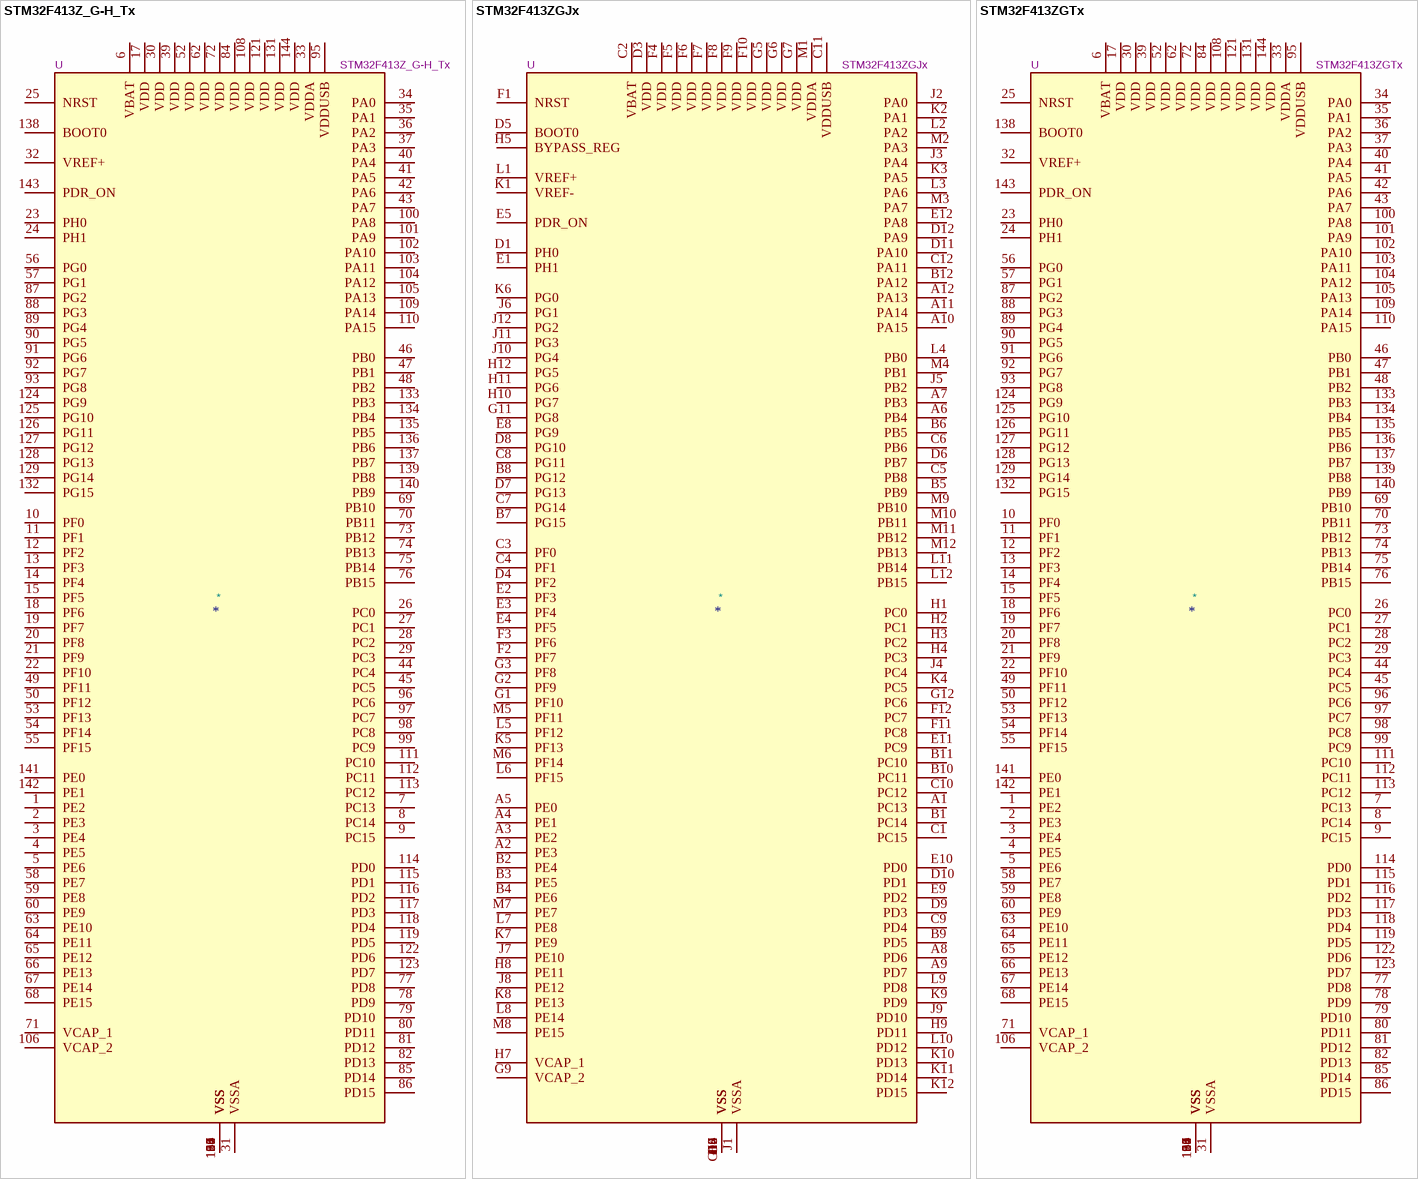
[diagram p22: symbols STM32F413Z_G-H_Tx to STM32F413ZGTx]

## STM32F413Z_G-H_Tx
designator *  value STM32F413Z_G-H_Tx  Reference: U
STMicroelectronics Arm Cortex-M4 MCU, 1024-1536KB flash, 320KB RAM, 100 MHz, 1.7-3.6V, 114 GPIO, LQFP144; ki_keywords: Arm Cortex-M4 STM32F4 STM32F413/423; ki_fp_filters: LQFP*20x20mm*P0.5mm*; Footprint: Package_QFP:LQFP-144_20x20mm_P0.5mm; Datasheet: https://www.st.com/resource/en/datasheet/stm32f413zg.pdf; Description_: STMicroelectronics Arm Cortex-M4 MCU, 1024-1536KB flash, 320KB RAM, 100 MHz, 1.7-3.6V, 114 GPIO, LQFP144
pins: 1 PE2, 2 PE3, 3 PE4, 4 PE5, 5 PE6, 6 VBAT, 7 PC13, 8 PC14, 9 PC15, 10 PF0, 11 PF1, 12 PF2, 13 PF3, 14 PF4, 15 PF5, 16 VSS, 17 VDD, 18 PF6, 19 PF7, 20 PF8, 21 PF9, 22 PF10, 23 PH0, 24 PH1, 25 NRST, 26 PC0, 27 PC1, 28 PC2, 29 PC3, 30 VDD, 31 VSSA, 32 VREF+, 33 VDDA, 34 PA0, 35 PA1, 36 PA2, 37 PA3, 38 VSS, 39 VDD, 40 PA4, 41 PA5, 42 PA6, 43 PA7, 44 PC4, 45 PC5, 46 PB0, 47 PB1, 48 PB2, 49 PF11, 50 PF12, 51 VSS, 52 VDD, 53 PF13, 54 PF14, 55 PF15, 56 PG0, 57 PG1, 58 PE7, 59 PE8, 60 PE9, 61 VSS, 62 VDD, 63 PE10, 64 PE11, 65 PE12, 66 PE13, 67 PE14, 68 PE15, 69 PB10, 70 PB11, 71 VCAP_1, 72 VDD, 73 PB12, 74 PB13, 75 PB14, 76 PB15, 77 PD8, 78 PD9, 79 PD10, 80 PD11, 81 PD12, 82 PD13, 83 VSS, 84 VDD, 85 PD14, 86 PD15, 87 PG2, 88 PG3, 89 PG4, 90 PG5, 91 PG6, 92 PG7, 93 PG8, 94 VSS, 95 VDDUSB, 96 PC6, 97 PC7, 98 PC8, 99 PC9, 100 PA8, 101 PA9, 102 PA10, 103 PA11, 104 PA12, 105 PA13, 106 VCAP_2, 107 VSS, 108 VDD, 109 PA14, 110 PA15, 111 PC10, 112 PC11, 113 PC12, 114 PD0, 115 PD1, 116 PD2, 117 PD3, 118 PD4, 119 PD5, 120 VSS, 121 VDD, 122 PD6, 123 PD7, 124 PG9, 125 PG10, 126 PG11, 127 PG12, 128 PG13, 129 PG14, 130 VSS, 131 VDD, 132 PG15, 133 PB3, 134 PB4, 135 PB5, 136 PB6, 137 PB7, 138 BOOT0, 139 PB8, 140 PB9, 141 PE0, 142 PE1, 143 PDR_ON, 144 VDD